# Altium schematic symbol library dungvh03-CERN_Logic.SchLib: 486 symbols (part 28 of 54)
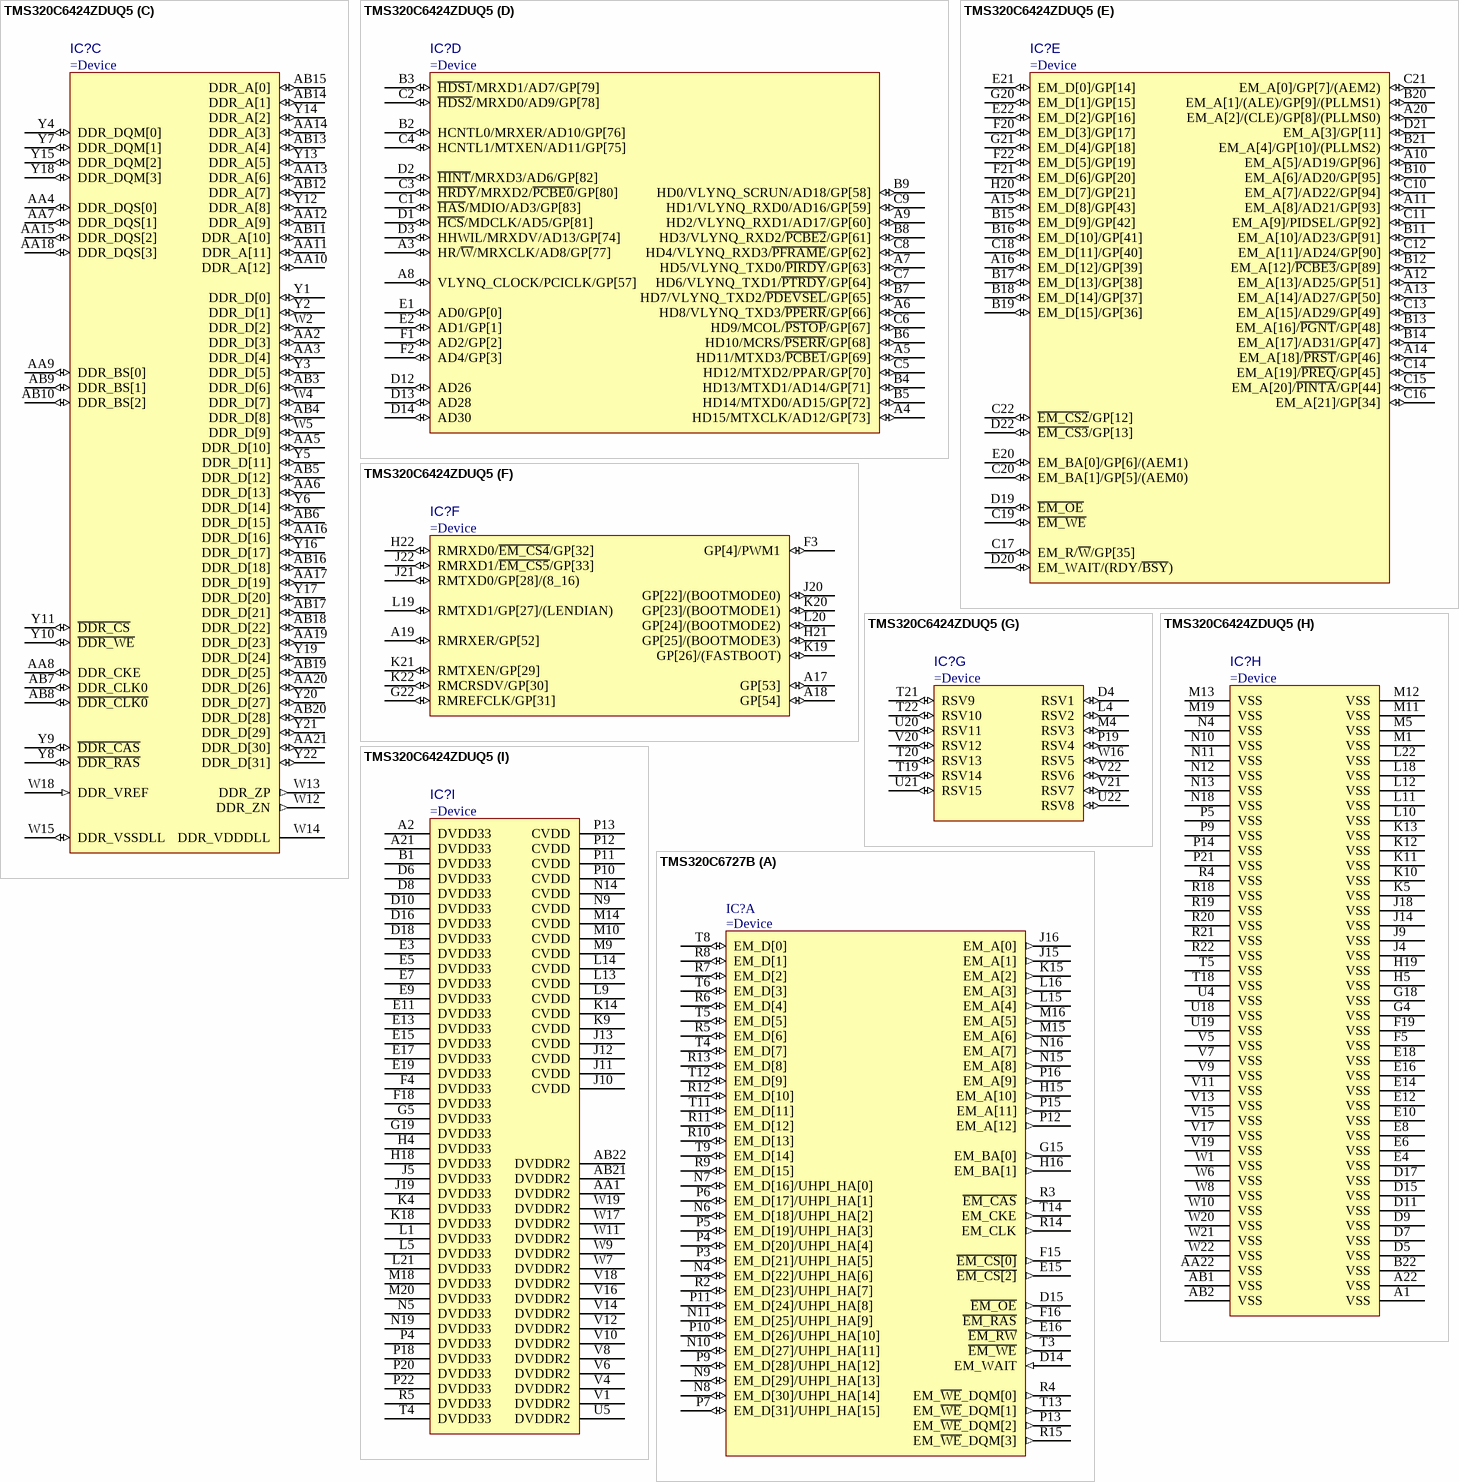
[diagram p288: symbols TMS320C6424ZDUQ5 to TMS320C6727B]

## TMS320C6424ZDUQ5
designator IC?
Fixed-Point Digital Signal Processor (DSP)
part A pins: M21 MXVSS (io), M22 MXO (out), N2 SCL (io), N20 PLLPWR18 (power), N21 MXVDD (power), N22 MXI/CLKIN (in), P2 SDA (io), R2 ~{POR} (in), R3 ~{RESET} (in), T1 EMU0 (io), T2 EMU1 (io), T3 ~{RESETOUT} (out), U1 TCK (in), U2 TDO (out), U3 TDI (in), V2 ~{TRST} (in), V3 TMS (in), W3 PCIEN (in)
part B pins: G1 ACLKX0/CLKX1/GP[106] (io), G2 AFSX0/DX1/GP[107] (io), G3 AMUTEIN0/FSX1/GP[109] (io), H1 AHCLKX0/CLKR1/GP[108] (io), H2 AXR0[0]/FSR1/GP[105] (io), H3 AMUTE0/DR1/GP[110] (io), J1 ACLKR0/CLKX0/GP[99] (io), J2 AXR0[2]/FSX0/GP[103] (io), J3 AXR0[3]/FSR0/GP[102] (io), K1 AHCLKR0/CLKR0/GP[101] (io), K2 AXR0[1]/DX0/GP[104] (io), K3 AFSR0/DR0/GP[100] (io), L2 CLKS1/TINP0L/GP[98] (io), L3 CLKS0/TOUT0L/GP[97] (io), M2 URXD0/GP[85] (io), M3 URTS0/PWM0/GP[88] (io), N1 UTXD0/GP[86] (io), N3 TOUT1L/UTXD1/GP[55] (io), P1 UCTS0/GP[87] (io), P3 TINP1L/URXD1/GP[56] (io), R1 CLKOUT0/PWM2/GP[84] (io)
part C pins: AA2 DDR_D[3] (io), AA3 DDR_D[4] (io), AA4 DDR_DQS[0] (io), AA5 DDR_D[10] (io), AA6 DDR_D[13] (io), AA7 DDR_DQS[1] (io), AA8 DDR_CKE (io), AA9 DDR_BS[0] (io), AA10 DDR_A[12] (io), AA11 DDR_A[11] (io), AA12 DDR_A[9] (io), AA13 DDR_A[6] (io), AA14 DDR_A[3] (io), AA15 DDR_DQS[2] (io), AA16 DDR_D[16] (io), AA17 DDR_D[19] (io), AA18 DDR_DQS[3] (io), AA19 DDR_D[23] (io), AA20 DDR_D[26] (io), AA21 DDR_D[30] (io), AB3 DDR_D[6] (io), AB4 DDR_D[8] (io), AB5 DDR_D[12] (io), AB6 DDR_D[15] (io), AB7 DDR_CLK0 (io), AB8 ~{DDR_CLK0} (io), AB9 DDR_BS[1] (io), AB10 DDR_BS[2] (io), AB11 DDR_A[10] (io), AB12 DDR_A[7] (io), AB13 DDR_A[4] (io), AB14 DDR_A[1] (io), AB15 DDR_A[0] (io), AB16 DDR_D[18] (io), AB17 DDR_D[21] (io), AB18 DDR_D[22] (io), AB19 DDR_D[25] (io), AB20 DDR_D[28] (io), W2 DDR_D[2] (io), W4 DDR_D[7] (io), W5 DDR_D[9] (io), W12 DDR_ZN (out), W13 DDR_ZP (out), W14 DDR_VDDDLL (power), W15 DDR_VSSDLL (io), W18 DDR_VREF (in), Y1 DDR_D[0] (io), Y2 DDR_D[1] (io), Y3 DDR_D[5] (io), Y4 DDR_DQM[0] (io), Y5 DDR_D[11] (io), Y6 DDR_D[14] (io), Y7 DDR_DQM[1] (io), Y8 ~{DDR_RAS} (io), Y9 ~{DDR_CAS} (io), Y10 ~{DDR_WE} (io), Y11 ~{DDR_CS} (io), Y12 DDR_A[8] (io), Y13 DDR_A[5] (io), Y14 DDR_A[2] (io), Y15 DDR_DQM[2] (io), Y16 DDR_D[17] (io), Y17 DDR_D[20] (io), Y18 DDR_DQM[3] (io), Y19 DDR_D[24] (io), Y20 DDR_D[27] (io), Y21 DDR_D[29] (io), Y22 DDR_D[31] (io)
part D pins: A3 HR/~{W}/MRXCLK/AD8/GP[77] (io), A4 HD15/MTXCLK/AD12/GP[73] (io), A5 HD11/MTXD3/~{PCBE1}/GP[69] (io), A6 HD8/VLYNQ_TXD3/~{PPERR}/GP[66] (io), A7 HD5/VLYNQ_TXD0/~{PIRDY}/GP[63] (io), A8 VLYNQ_CLOCK/PCICLK/GP[57] (io), A9 HD2/VLYNQ_RXD1/AD17/GP[60] (io), B2 HCNTL0/MRXER/AD10/GP[76] (io), B3 ~{HDS1}/MRXD1/AD7/GP[79] (io), B4 HD13/MTXD1/AD14/GP[71] (io), B5 HD14/MTXD0/AD15/GP[72] (io), B6 HD10/MCRS/~{PSERR}/GP[68] (io), B7 HD7/VLYNQ_TXD2/~{PDEVSEL}/GP[65] (io), B8 HD3/VLYNQ_RXD2/~{PCBE2}/GP[61] (io), B9 HD0/VLYNQ_SCRUN/AD18/GP[58] (io), C1 ~{HAS}/MDIO/AD3/GP[83] (io), C2 ~{HDS2}/MRXD0/AD9/GP[78] (io), C3 ~{HRDY}/MRXD2/~{PCBE0}/GP[80] (io), C4 HCNTL1/MTXEN/AD11/GP[75] (io), C5 HD12/MTXD2/PPAR/GP[70] (io), C6 HD9/MCOL/~{PSTOP}/GP[67] (io), C7 HD6/VLYNQ_TXD1/~{PTRDY}/GP[64] (io), C8 HD4/VLYNQ_RXD3/~{PFRAME}/GP[62] (io), C9 HD1/VLYNQ_RXD0/AD16/GP[59] (io), D1 ~{HCS}/MDCLK/AD5/GP[81] (io), D2 ~{HINT}/MRXD3/AD6/GP[82] (io), D3 HHWIL/MRXDV/AD13/GP[74] (io), D12 AD26 (io), D13 AD28 (io), D14 AD30 (io), E1 AD0/GP[0] (io), E2 AD1/GP[1] (io), F1 AD2/GP[2] (io), F2 AD4/GP[3] (io)
part E pins: A10 EM_A[5]/AD19/GP[96] (io), A11 EM_A[8]/AD21/GP[93] (io), A12 EM_A[13]/AD25/GP[51] (io), A13 EM_A[14]/AD27/GP[50] (io), A14 EM_A[18]/~{PRST}/GP[46] (io), A15 EM_D[8]/GP[43] (io), A16 EM_D[12]/GP[39] (io), A20 EM_A[2]/(CLE)/GP[8]/(PLLMS0) (io), B10 EM_A[6]/AD20/GP[95] (io), B11 EM_A[10]/AD23/GP[91] (io), B12 EM_A[12]/~{PCBE3}/GP[89] (io), B13 EM_A[16]/~{PGNT}/GP[48] (io), B14 EM_A[17]/AD31/GP[47] (io), B15 EM_D[9]/GP[42] (io), B16 EM_D[10]/GP[41] (io), B17 EM_D[13]/GP[38] (io), B18 EM_D[14]/GP[37] (io), B19 EM_D[15]/GP[36] (io), B20 EM_A[1]/(ALE)/GP[9]/(PLLMS1) (io), B21 EM_A[4]/GP[10]/(PLLMS2) (io), C10 EM_A[7]/AD22/GP[94] (io), C11 EM_A[9]/PIDSEL/GP[92] (io), C12 EM_A[11]/AD24/GP[90] (io), C13 EM_A[15]/AD29/GP[49] (io), C14 EM_A[19]/~{PREQ}/GP[45] (io), C15 EM_A[20]/~{PINTA}/GP[44] (io), C16 EM_A[21]/GP[34] (io), C17 EM_R/~{W}/GP[35] (io), C18 EM_D[11]/GP[40] (io), C19 ~{EM_WE} (io), C20 EM_BA[1]/GP[5]/(AEM0) (io), C21 EM_A[0]/GP[7]/(AEM2) (io), C22 ~{EM_CS2}/GP[12] (io), D19 ~{EM_OE} (io), D20 EM_WAIT/(RDY/~{BSY}) (io), D21 EM_A[3]/GP[11] (io), D22 ~{EM_CS3}/GP[13] (io), E20 EM_BA[0]/GP[6]/(AEM1) (io), E21 EM_D[0]/GP[14] (io), E22 EM_D[2]/GP[16] (io), F20 EM_D[3]/GP[17] (io), F21 EM_D[6]/GP[20] (io), F22 EM_D[5]/GP[19] (io), G20 EM_D[1]/GP[15] (io), G21 EM_D[4]/GP[18] (io), H20 EM_D[7]/GP[21] (io)
part F pins: A17 GP[53] (io), A18 GP[54] (io), A19 RMRXER/GP[52] (io), F3 GP[4]/PWM1 (io), G22 RMREFCLK/GP[31] (io), H21 GP[25]/(BOOTMODE3) (io), H22 RMRXD0/~{EM_CS4}/GP[32] (io), J20 GP[22]/(BOOTMODE0) (io), J21 RMTXD0/GP[28]/(8_16) (io), J22 RMRXD1/~{EM_CS5}/GP[33] (io), K19 GP[26]/(FASTBOOT) (io), K20 GP[23]/(BOOTMODE1) (io), K21 RMTXEN/GP[29] (io), K22 RMCRSDV/GP[30] (io), L19 RMTXD1/GP[27]/(LENDIAN) (io), L20 GP[24]/(BOOTMODE2) (io)
part G pins: D4 RSV1 (io), L4 RSV2 (io), M4 RSV3 (io), P19 RSV4 (io), T19 RSV14 (io), T20 RSV13 (io), T21 RSV9 (io), T22 RSV10 (io), U20 RSV11 (io), U21 RSV15 (io), U22 RSV8 (io), V20 RSV12 (io), V21 RSV7 (io), V22 RSV6 (io), W16 RSV5 (io)
part H pins: A1 VSS (power), A22 VSS (power), AA22 VSS (power), AB1 VSS (power), AB2 VSS (power), B22 VSS (power), D5 VSS (power), D7 VSS (power), D9 VSS (power), D11 VSS (power), D15 VSS (power), D17 VSS (power), E4 VSS (power), E6 VSS (power), E8 VSS (power), E10 VSS (power), E12 VSS (power), E14 VSS (power), E16 VSS (power), E18 VSS (power), F5 VSS (power), F19 VSS (power), G4 VSS (power), G18 VSS (power), H5 VSS (power), H19 VSS (power), J4 VSS (power), J9 VSS (power), J14 VSS (power), J18 VSS (power), K5 VSS (power), K10 VSS (power), K11 VSS (power), K12 VSS (power), K13 VSS (power), L10 VSS (power), L11 VSS (power), L12 VSS (power), L18 VSS (power), L22 VSS (power), M1 VSS (power), M5 VSS (power), M11 VSS (power), M12 VSS (power), M13 VSS (power), M19 VSS (power), N4 VSS (power), N10 VSS (power), N11 VSS (power), N12 VSS (power), N13 VSS (power), N18 VSS (power), P5 VSS (power), P9 VSS (power), P14 VSS (power), P21 VSS (power), R4 VSS (power), R18 VSS (power), R19 VSS (power), R20 VSS (power), R21 VSS (power), R22 VSS (power), T5 VSS (power), T18 VSS (power), U4 VSS (power), U18 VSS (power), U19 VSS (power), V5 VSS (power), V7 VSS (power), V9 VSS (power), V11 VSS (power), V13 VSS (power), V15 VSS (power), V17 VSS (power), V19 VSS (power), W1 VSS (power), W6 VSS (power), W8 VSS (power), W10 VSS (power), W20 VSS (power), W21 VSS (power), W22 VSS (power)
part I pins: A2 DVDD33 (power), A21 DVDD33 (power), AA1 DVDDR2 (power), AB21 DVDDR2 (power), AB22 DVDDR2 (power), B1 DVDD33 (power), D6 DVDD33 (power), D8 DVDD33 (power), D10 DVDD33 (power), D16 DVDD33 (power), D18 DVDD33 (power), E3 DVDD33 (power), E5 DVDD33 (power), E7 DVDD33 (power), E9 DVDD33 (power), E11 DVDD33 (power), E13 DVDD33 (power), E15 DVDD33 (power), E17 DVDD33 (power), E19 DVDD33 (power), F4 DVDD33 (power), F18 DVDD33 (power), G5 DVDD33 (power), G19 DVDD33 (power), H4 DVDD33 (power), H18 DVDD33 (power), J5 DVDD33 (power), J10 CVDD (power), J11 CVDD (power), J12 CVDD (power), J13 CVDD (power), J19 DVDD33 (power), K4 DVDD33 (power), K9 CVDD (power), K14 CVDD (power), K18 DVDD33 (power), L1 DVDD33 (power), L5 DVDD33 (power), L9 CVDD (power), L13 CVDD (power), L14 CVDD (power), L21 DVDD33 (power), M9 CVDD (power), M10 CVDD (power), M14 CVDD (power), M18 DVDD33 (power), M20 DVDD33 (power), N5 DVDD33 (power), N9 CVDD (power), N14 CVDD (power), N19 DVDD33 (power), P4 DVDD33 (power), P10 CVDD (power), P11 CVDD (power), P12 CVDD (power), P13 CVDD (power), P18 DVDD33 (power), P20 DVDD33 (power), P22 DVDD33 (power), R5 DVDD33 (power), T4 DVDD33 (power), U5 DVDDR2 (power), V1 DVDDR2 (power), V4 DVDDR2 (power), V6 DVDDR2 (power), V8 DVDDR2 (power), V10 DVDDR2 (power), V12 DVDDR2 (power), V14 DVDDR2 (power), V16 DVDDR2 (power), V18 DVDDR2 (power), W7 DVDDR2 (power), W9 DVDDR2 (power), W11 DVDDR2 (power), W17 DVDDR2 (power), W19 DVDDR2 (power)

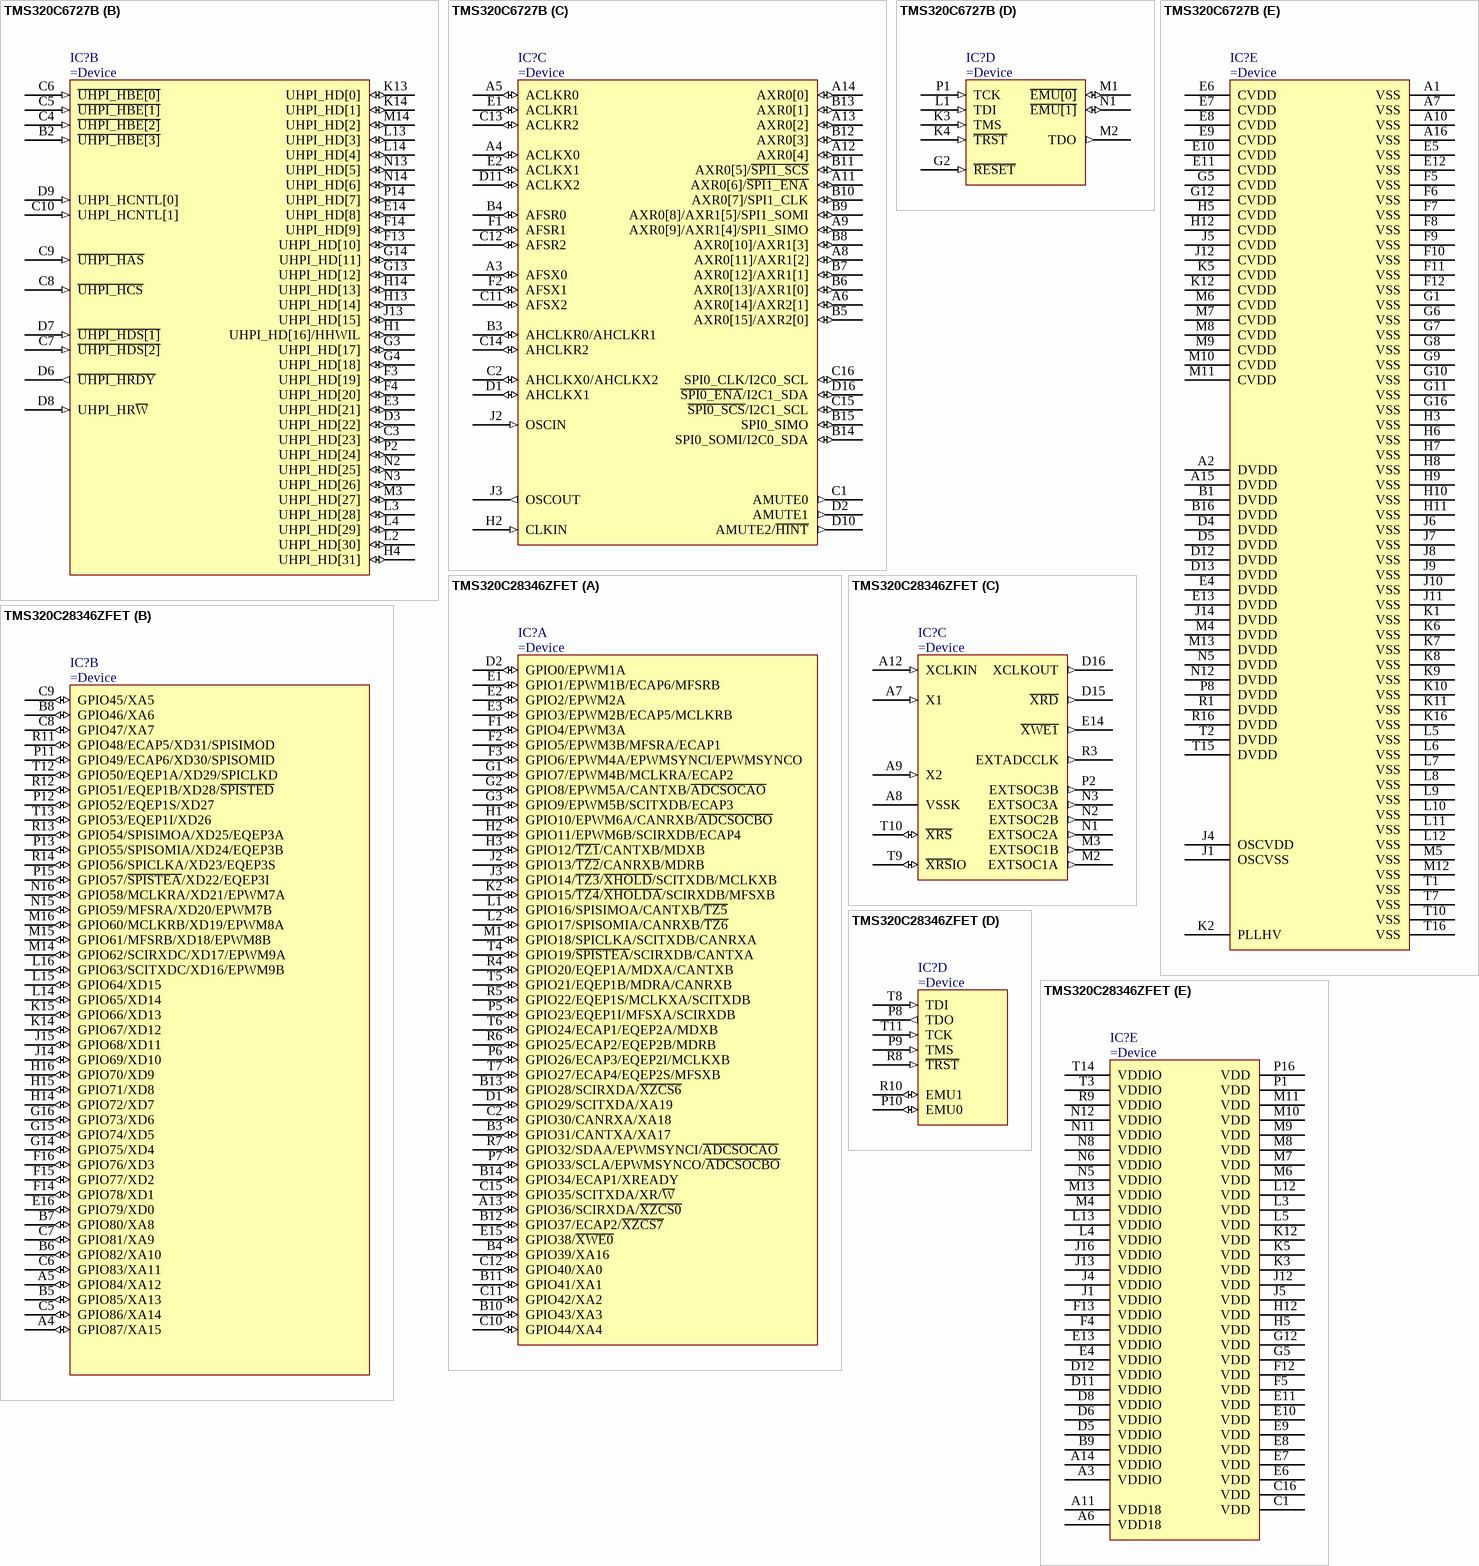
[diagram p125: symbols TMS320C6727B to TMS320C28346ZFET]

## TMS320C6727B
designator IC?
Floating-Point Digital Signal Processor (DSP)
part A pins: D14 EM_WAIT (in), D15 ~{EM_OE} (out), E15 ~{EM_CS[2]} (out), E16 ~{EM_RW} (out), F15 ~{EM_CS[0]} (out), F16 ~{EM_RAS} (out), G15 EM_BA[0] (out), H15 EM_A[10] (out), H16 EM_BA[1] (out), J15 EM_A[1] (out), J16 EM_A[0] (out), K15 EM_A[2] (out), L15 EM_A[4] (out), L16 EM_A[3] (out), M15 EM_A[6] (out), M16 EM_A[5] (out), N4 EM_D[22]/UHPI_HA[6] (io), N6 EM_D[18]/UHPI_HA[2] (io), N7 EM_D[16]/UHPI_HA[0] (io), N8 EM_D[30]/UHPI_HA[14] (io), N9 EM_D[29]/UHPI_HA[13] (io), N10 EM_D[27]/UHPI_HA[11] (io), N11 EM_D[25]/UHPI_HA[9] (io), N15 EM_A[8] (out), N16 EM_A[7] (out), P3 EM_D[21]/UHPI_HA[5] (io), P4 EM_D[20]/UHPI_HA[4] (io), P5 EM_D[19]/UHPI_HA[3] (io), P6 EM_D[17]/UHPI_HA[1] (io), P7 EM_D[31]/UHPI_HA[15] (io), P9 EM_D[28]/UHPI_HA[12] (io), P10 EM_D[26]/UHPI_HA[10] (io), P11 EM_D[24]/UHPI_HA[8] (io), P12 EM_A[12] (out), P13 EM_~{WE}_DQM[2] (out), P15 EM_A[11] (out), P16 EM_A[9] (out), R2 EM_D[23]/UHPI_HA[7] (io), R3 ~{EM_CAS} (out), R4 EM_~{WE}_DQM[0] (out), R5 EM_D[6] (io), R6 EM_D[4] (io), R7 EM_D[2] (io), R8 EM_D[1] (io), R9 EM_D[15] (io), R10 EM_D[13] (io), R11 EM_D[12] (io), R12 EM_D[10] (io), R13 EM_D[8] (io), R14 EM_CLK (out), R15 EM_~{WE}_DQM[3] (out), T3 ~{EM_WE} (out), T4 EM_D[7] (io), T5 EM_D[5] (io), T6 EM_D[3] (io), T8 EM_D[0] (io), T9 EM_D[14] (io), T11 EM_D[11] (io), T12 EM_D[9] (io), T13 EM_~{WE}_DQM[1] (out), T14 EM_CKE (out)
part B pins: B2 ~{UHPI_HBE[3]} (in), C3 UHPI_HD[23] (io), C4 ~{UHPI_HBE[2]} (in), C5 ~{UHPI_HBE[1]} (in), C6 ~{UHPI_HBE[0]} (in), C7 ~{UHPI_HDS[2]} (in), C8 ~{UHPI_HCS} (in), C9 ~{UHPI_HAS} (in), C10 UHPI_HCNTL[1] (in), D3 UHPI_HD[22] (io), D6 ~{UHPI_HRDY} (out), D7 ~{UHPI_HDS[1]} (in), D8 UHPI_HR~{W} (in), D9 UHPI_HCNTL[0] (in), E3 UHPI_HD[21] (io), E14 UHPI_HD[8] (io), F3 UHPI_HD[19] (io), F4 UHPI_HD[20] (io), F13 UHPI_HD[10] (io), F14 UHPI_HD[9] (io), G3 UHPI_HD[17] (io), G4 UHPI_HD[18] (io), G13 UHPI_HD[12] (io), G14 UHPI_HD[11] (io), H1 UHPI_HD[16]/HHWIL (io), H4 UHPI_HD[31] (io), H13 UHPI_HD[14] (io), H14 UHPI_HD[13] (io), J13 UHPI_HD[15] (io), K13 UHPI_HD[0] (io), K14 UHPI_HD[1] (io), L2 UHPI_HD[30] (io), L3 UHPI_HD[28] (io), L4 UHPI_HD[29] (io), L13 UHPI_HD[3] (io), L14 UHPI_HD[4] (io), M3 UHPI_HD[27] (io), M14 UHPI_HD[2] (io), N2 UHPI_HD[25] (io), N3 UHPI_HD[26] (io), N13 UHPI_HD[5] (io), N14 UHPI_HD[6] (io), P2 UHPI_HD[24] (io), P14 UHPI_HD[7] (io)
part C pins: A3 AFSX0 (io), A4 ACLKX0 (io), A5 ACLKR0 (io), A6 AXR0[14]/AXR2[1] (io), A8 AXR0[11]/AXR1[2] (io), A9 AXR0[9]/AXR1[4]/SPI1_SIMO (io), A11 AXR0[6]/~{SPI1_ENA} (io), A12 AXR0[4] (io), A13 AXR0[2] (io), A14 AXR0[0] (io), B3 AHCLKR0/AHCLKR1 (io), B4 AFSR0 (io), B5 AXR0[15]/AXR2[0] (io), B6 AXR0[13]/AXR1[0] (io), B7 AXR0[12]/AXR1[1] (io), B8 AXR0[10]/AXR1[3] (io), B9 AXR0[8]/AXR1[5]/SPI1_SOMI (io), B10 AXR0[7]/SPI1_CLK (io), B11 AXR0[5]/~{SPI1_SCS} (io), B12 AXR0[3] (io), B13 AXR0[1] (io), B14 SPI0_SOMI/I2C0_SDA (io), B15 SPI0_SIMO (io), C1 AMUTE0 (out), C2 AHCLKX0/AHCLKX2 (io), C11 AFSX2 (io), C12 AFSR2 (io), C13 ACLKR2 (io), C14 AHCLKR2 (io), C15 ~{SPI0_SCS}/I2C1_SCL (io), C16 SPI0_CLK/I2C0_SCL (io), D1 AHCLKX1 (io), D2 AMUTE1 (out), D10 AMUTE2/~{HINT} (out), D11 ACLKX2 (io), D16 ~{SPI0_ENA}/I2C1_SDA (io), E1 ACLKR1 (io), E2 ACLKX1 (io), F1 AFSR1 (io), F2 AFSX1 (io), H2 CLKIN (in), J2 OSCIN (in), J3 OSCOUT (out)
part D pins: G2 ~{RESET} (in), K3 TMS (in), K4 ~{TRST} (in), L1 TDI (in), M1 ~{EMU[0]} (io), M2 TDO (out), N1 ~{EMU[1]} (io), P1 TCK (in)
part E pins: A1 VSS (power), A2 DVDD (power), A7 VSS (power), A10 VSS (power), A15 DVDD (power), A16 VSS (power), B1 DVDD (power), B16 DVDD (power), D4 DVDD (power), D5 DVDD (power), D12 DVDD (power), D13 DVDD (power), E4 DVDD (power), E5 VSS (power), E6 CVDD (power), E7 CVDD (power), E8 CVDD (power), E9 CVDD (power), E10 CVDD (power), E11 CVDD (power), E12 VSS (power), E13 DVDD (power), F5 VSS (power), F6 VSS (power), F7 VSS (power), F8 VSS (power), F9 VSS (power), F10 VSS (power), F11 VSS (power), F12 VSS (power), G1 VSS (power), G5 CVDD (power), G6 VSS (power), G7 VSS (power), G8 VSS (power), G9 VSS (power), G10 VSS (power), G11 VSS (power), G12 CVDD (power), G16 VSS (power), H3 VSS (power), H5 CVDD (power), H6 VSS (power), H7 VSS (power), H8 VSS (power), H9 VSS (power), H10 VSS (power), H11 VSS (power), H12 CVDD (power), J1 OSCVSS (power), J4 OSCVDD (power), J5 CVDD (power), J6 VSS (power), J7 VSS (power), J8 VSS (power), J9 VSS (power), J10 VSS (power), J11 VSS (power), J12 CVDD (power), J14 DVDD (power), K1 VSS (power), K2 PLLHV (power), K5 CVDD (power), K6 VSS (power), K7 VSS (power), K8 VSS (power), K9 VSS (power), K10 VSS (power), K11 VSS (power), K12 CVDD (power), K16 VSS (power), L5 VSS (power), L6 VSS (power), L7 VSS (power), L8 VSS (power), L9 VSS (power), L10 VSS (power), L11 VSS (power), L12 VSS (power), M4 DVDD (power), M5 VSS (power), M6 CVDD (power), M7 CVDD (power), M8 CVDD (power), M9 CVDD (power), M10 CVDD (power), M11 CVDD (power), M12 VSS (power), M13 DVDD (power), N5 DVDD (power), N12 DVDD (power), P8 DVDD (power), R1 DVDD (power), R16 DVDD (power), T1 VSS (power), T2 DVDD (power), T7 VSS (power), T10 VSS (power), T15 DVDD (power), T16 VSS (power)

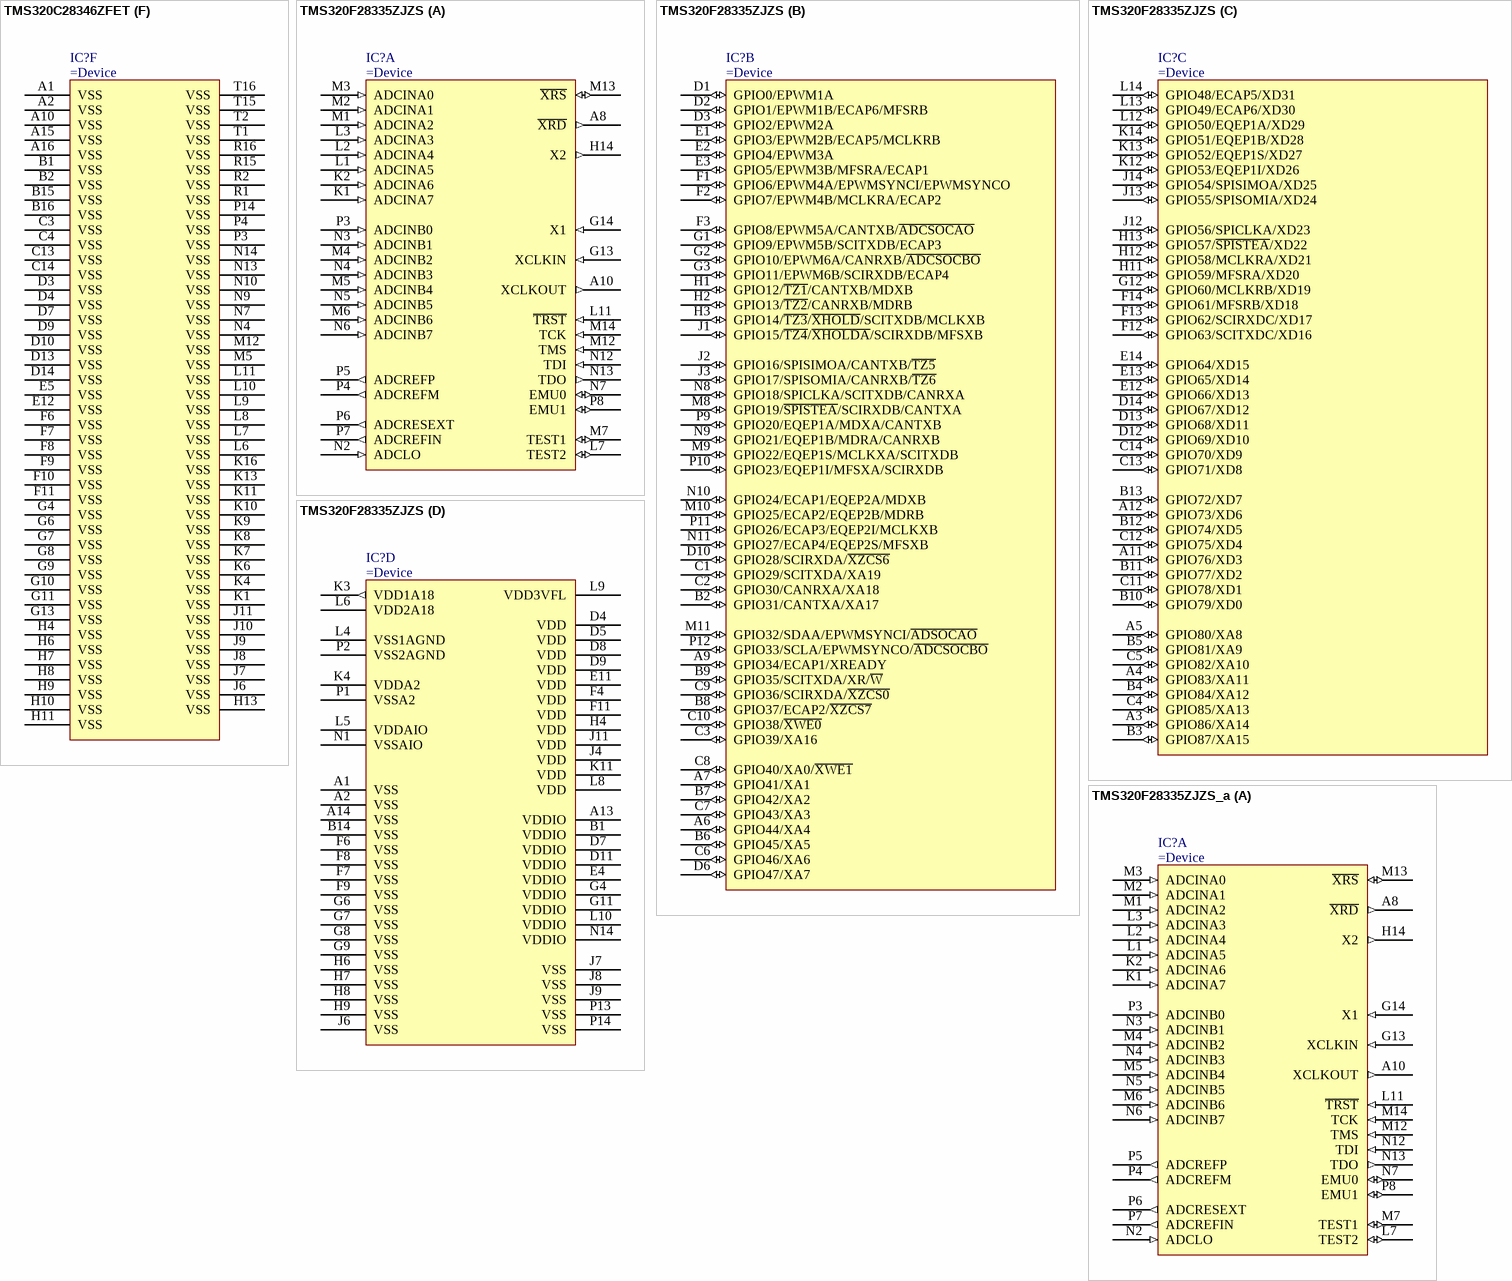
[diagram p126: symbols TMS320C28346ZFET to TMS320F28335ZJZS_a]

## TMS320C28346ZFET
designator IC?
Delfino Microcontroller
part A pins: A13 GPIO36/SCIRXDA/~{XZCS0} (io), B3 GPIO31/CANTXA/XA17 (io), B4 GPIO39/XA16 (io), B10 GPIO43/XA3 (io), B11 GPIO41/XA1 (io), B12 GPIO37/ECAP2/~{XZCS7} (io), B13 GPIO28/SCIRXDA/~{XZCS6} (io), B14 GPIO34/ECAP1/XREADY (io), C2 GPIO30/CANRXA/XA18 (io), C10 GPIO44/XA4 (io), C11 GPIO42/XA2 (io), C12 GPIO40/XA0 (io), C15 GPIO35/SCITXDA/XR/~{W} (io), D1 GPIO29/SCITXDA/XA19 (io), D2 GPIO0/EPWM1A (io), E1 GPIO1/EPWM1B/ECAP6/MFSRB (io), E2 GPIO2/EPWM2A (io), E3 GPIO3/EPWM2B/ECAP5/MCLKRB (io), E15 GPIO38/~{XWE0} (io), F1 GPIO4/EPWM3A (io), F2 GPIO5/EPWM3B/MFSRA/ECAP1 (io), F3 GPIO6/EPWM4A/EPWMSYNCI/EPWMSYNCO (io), G1 GPIO7/EPWM4B/MCLKRA/ECAP2 (io), G2 GPIO8/EPWM5A/CANTXB/~{ADCSOCAO} (io), G3 GPIO9/EPWM5B/SCITXDB/ECAP3 (io), H1 GPIO10/EPWM6A/CANRXB/~{ADCSOCBO} (io), H2 GPIO11/EPWM6B/SCIRXDB/ECAP4 (io), H3 GPIO12/~{TZ1}/CANTXB/MDXB (io), J2 GPIO13/~{TZ2}/CANRXB/MDRB (io), J3 GPIO14/~{TZ3}/~{XHOLD}/SCITXDB/MCLKXB (io), K2 GPIO15/~{TZ4}/~{XHOLDA}/SCIRXDB/MFSXB (io), L1 GPIO16/SPISIMOA/CANTXB/~{TZ5} (io), L2 GPIO17/SPISOMIA/CANRXB/~{TZ6} (io), M1 GPIO18/SPICLKA/SCITXDB/CANRXA (io), P5 GPIO23/EQEP1I/MFSXA/SCIRXDB (io), P6 GPIO26/ECAP3/EQEP2I/MCLKXB (io), P7 GPIO33/SCLA/EPWMSYNCO/~{ADCSOCBO} (io), R4 GPIO20/EQEP1A/MDXA/CANTXB (io), R5 GPIO22/EQEP1S/MCLKXA/SCITXDB (io), R6 GPIO25/ECAP2/EQEP2B/MDRB (io), R7 GPIO32/SDAA/EPWMSYNCI/~{ADCSOCAO} (io), T4 GPIO19/~{SPISTEA}/SCIRXDB/CANTXA (io), T5 GPIO21/EQEP1B/MDRA/CANRXB (io), T6 GPIO24/ECAP1/EQEP2A/MDXB (io), T7 GPIO27/ECAP4/EQEP2S/MFSXB (io)
part B pins: A4 GPIO87/XA15 (io), A5 GPIO84/XA12 (io), B5 GPIO85/XA13 (io), B6 GPIO82/XA10 (io), B7 GPIO80/XA8 (io), B8 GPIO46/XA6 (io), C5 GPIO86/XA14 (io), C6 GPIO83/XA11 (io), C7 GPIO81/XA9 (io), C8 GPIO47/XA7 (io), C9 GPIO45/XA5 (io), E16 GPIO79/XD0 (io), F14 GPIO78/XD1 (io), F15 GPIO77/XD2 (io), F16 GPIO76/XD3 (io), G14 GPIO75/XD4 (io), G15 GPIO74/XD5 (io), G16 GPIO73/XD6 (io), H14 GPIO72/XD7 (io), H15 GPIO71/XD8 (io), H16 GPIO70/XD9 (io), J14 GPIO69/XD10 (io), J15 GPIO68/XD11 (io), K14 GPIO67/XD12 (io), K15 GPIO66/XD13 (io), L14 GPIO65/XD14 (io), L15 GPIO64/XD15 (io), L16 GPIO63/SCITXDC/XD16/EPWM9B (io), M14 GPIO62/SCIRXDC/XD17/EPWM9A (io), M15 GPIO61/MFSRB/XD18/EPWM8B (io), M16 GPIO60/MCLKRB/XD19/EPWM8A (io), N15 GPIO59/MFSRA/XD20/EPWM7B (io), N16 GPIO58/MCLKRA/XD21/EPWM7A (io), P11 GPIO49/ECAP6/XD30/SPISOMID (io), P12 GPIO52/EQEP1S/XD27 (io), P13 GPIO55/SPISOMIA/XD24/EQEP3B (io), P15 GPIO57/~{SPISTEA}/XD22/EQEP3I (io), R11 GPIO48/ECAP5/XD31/SPISIMOD (io), R12 GPIO51/EQEP1B/XD28/~{SPISTED} (io), R13 GPIO54/SPISIMOA/XD25/EQEP3A (io), R14 GPIO56/SPICLKA/XD23/EQEP3S (io), T12 GPIO50/EQEP1A/XD29/SPICLKD (io), T13 GPIO53/EQEP1I/XD26 (io)
part C pins: A7 X1 (in), A8 VSSK (power), A9 X2 (in), A12 XCLKIN (in), D15 ~{XRD} (out), D16 XCLKOUT (out), E14 ~{XWE1} (out), M2 EXTSOC1A (out), M3 EXTSOC1B (out), N1 EXTSOC2A (out), N2 EXTSOC2B (out), N3 EXTSOC3A (out), P2 EXTSOC3B (out), R3 EXTADCCLK (out), T9 ~{XRS}IO (io), T10 ~{XRS} (io)
part D pins: P8 TDO (out), P9 TMS (in), P10 EMU0 (io), R8 ~{TRST} (in), R10 EMU1 (io), T8 TDI (in), T11 TCK (in)
part E pins: A3 VDDIO (power), A6 VDD18 (power), A11 VDD18 (power), A14 VDDIO (power), B9 VDDIO (power), C1 VDD (power), C16 VDD (power), D5 VDDIO (power), D6 VDDIO (power), D8 VDDIO (power), D11 VDDIO (power), D12 VDDIO (power), E4 VDDIO (power), E6 VDD (power), E7 VDD (power), E8 VDD (power), E9 VDD (power), E10 VDD (power), E11 VDD (power), E13 VDDIO (power), F4 VDDIO (power), F5 VDD (power), F12 VDD (power), F13 VDDIO (power), G5 VDD (power), G12 VDD (power), H5 VDD (power), H12 VDD (power), J1 VDDIO (power), J4 VDDIO (power), J5 VDD (power), J12 VDD (power), J13 VDDIO (power), J16 VDDIO (power), K3 VDD (power), K5 VDD (power), K12 VDD (power), L3 VDD (power), L4 VDDIO (power), L5 VDD (power), L12 VDD (power), L13 VDDIO (power), M4 VDDIO (power), M6 VDD (power), M7 VDD (power), M8 VDD (power), M9 VDD (power), M10 VDD (power), M11 VDD (power), M13 VDDIO (power), N5 VDDIO (power), N6 VDDIO (power), N8 VDDIO (power), N11 VDDIO (power), N12 VDDIO (power), P1 VDD (power), P16 VDD (power), R9 VDDIO (power), T3 VDDIO (power), T14 VDDIO (power)
part F pins: A1 VSS (power), A2 VSS (power), A10 VSS (power), A15 VSS (power), A16 VSS (power), B1 VSS (power), B2 VSS (power), B15 VSS (power), B16 VSS (power), C3 VSS (power), C4 VSS (power), C13 VSS (power), C14 VSS (power), D3 VSS (power), D4 VSS (power), D7 VSS (power), D9 VSS (power), D10 VSS (power), D13 VSS (power), D14 VSS (power), E5 VSS (power), E12 VSS (power), F6 VSS (power), F7 VSS (power), F8 VSS (power), F9 VSS (power), F10 VSS (power), F11 VSS (power), G4 VSS (power), G6 VSS (power), G7 VSS (power), G8 VSS (power), G9 VSS (power), G10 VSS (power), G11 VSS (power), G13 VSS (power), H4 VSS (power), H6 VSS (power), H7 VSS (power), H8 VSS (power), H9 VSS (power), H10 VSS (power), H11 VSS (power), H13 VSS (power), J6 VSS (power), J7 VSS (power), J8 VSS (power), J9 VSS (power), J10 VSS (power), J11 VSS (power), K1 VSS (power), K4 VSS (power), K6 VSS (power), K7 VSS (power), K8 VSS (power), K9 VSS (power), K10 VSS (power), K11 VSS (power), K13 VSS (power), K16 VSS (power), L6 VSS (power), L7 VSS (power), L8 VSS (power), L9 VSS (power), L10 VSS (power), L11 VSS (power), M5 VSS (power), M12 VSS (power), N4 VSS (power), N7 VSS (power), N9 VSS (power), N10 VSS (power), N13 VSS (power), N14 VSS (power), P3 VSS (power), P4 VSS (power), P14 VSS (power), R1 VSS (power), R2 VSS (power), R15 VSS (power), R16 VSS (power), T1 VSS (power), T2 VSS (power), T15 VSS (power), T16 VSS (power)

## TMS320F28335ZJZS
designator IC?
32-Bit 150MHz Digital Signal Processor (DSP)
part A pins: A8 ~{XRD} (out), A10 XCLKOUT (out), G13 XCLKIN (in), G14 X1 (in), H14 X2 (out), K1 ADCINA7 (in), K2 ADCINA6 (in), L1 ADCINA5 (in), L2 ADCINA4 (in), L3 ADCINA3 (in), L7 TEST2 (io), L11 ~{TRST} (in), M1 ADCINA2 (in), M2 ADCINA1 (in), M3 ADCINA0 (in), M4 ADCINB2 (in), M5 ADCINB4 (in), M6 ADCINB6 (in), M7 TEST1 (io), M12 TMS (in), M13 ~{XRS} (io), M14 TCK (in), N2 ADCLO (in), N3 ADCINB1 (in), N4 ADCINB3 (in), N5 ADCINB5 (in), N6 ADCINB7 (in), N7 EMU0 (io), N12 TDI (in), N13 TDO (out), P3 ADCINB0 (in), P4 ADCREFM (out), P5 ADCREFP (out), P6 ADCRESEXT (out), P7 ADCREFIN (out), P8 EMU1 (io)
part B pins: A6 GPIO44/XA4 (io), A7 GPIO41/XA1 (io), A9 GPIO34/ECAP1/XREADY (io), B2 GPIO31/CANTXA/XA17 (io), B6 GPIO45/XA5 (io), B7 GPIO42/XA2 (io), B8 GPIO37/ECAP2/~{XZCS7} (io), B9 GPIO35/SCITXDA/XR/~{W} (io), C1 GPIO29/SCITXDA/XA19 (io), C2 GPIO30/CANRXA/XA18 (io), C3 GPIO39/XA16 (io), C6 GPIO46/XA6 (io), C7 GPIO43/XA3 (io), C8 GPIO40/XA0/~{XWE1} (io), C9 GPIO36/SCIRXDA/~{XZCS0} (io), C10 GPIO38/~{XWE0} (io), D1 GPIO0/EPWM1A (io), D2 GPIO1/EPWM1B/ECAP6/MFSRB (io), D3 GPIO2/EPWM2A (io), D6 GPIO47/XA7 (io), D10 GPIO28/SCIRXDA/~{XZCS6} (io), E1 GPIO3/EPWM2B/ECAP5/MCLKRB (io), E2 GPIO4/EPWM3A (io), E3 GPIO5/EPWM3B/MFSRA/ECAP1 (io), F1 GPIO6/EPWM4A/EPWMSYNCI/EPWMSYNCO (io), F2 GPIO7/EPWM4B/MCLKRA/ECAP2 (io), F3 GPIO8/EPWM5A/CANTXB/~{ADCSOCAO} (io), G1 GPIO9/EPWM5B/SCITXDB/ECAP3 (io), G2 GPIO10/EPWM6A/CANRXB/~{ADCSOCBO} (io), G3 GPIO11/EPWM6B/SCIRXDB/ECAP4 (io), H1 GPIO12/~{TZ1}/CANTXB/MDXB (io), H2 GPIO13/~{TZ2}/CANRXB/MDRB (io), H3 GPIO14/~{TZ3}/~{XHOLD}/SCITXDB/MCLKXB (io), J1 GPIO15/~{TZ4}/~{XHOLDA}/SCIRXDB/MFSXB (io), J2 GPIO16/SPISIMOA/CANTXB/~{TZ5} (io), J3 GPIO17/SPISOMIA/CANRXB/~{TZ6} (io), M8 GPIO19/~{SPISTEA}/SCIRXDB/CANTXA (io), M9 GPIO22/EQEP1S/MCLKXA/SCITXDB (io), M10 GPIO25/ECAP2/EQEP2B/MDRB (io), M11 GPIO32/SDAA/EPWMSYNCI/~{ADSOCAO} (io), N8 GPIO18/SPICLKA/SCITXDB/CANRXA (io), N9 GPIO21/EQEP1B/MDRA/CANRXB (io), N10 GPIO24/ECAP1/EQEP2A/MDXB (io), N11 GPIO27/ECAP4/EQEP2S/MFSXB (io), P9 GPIO20/EQEP1A/MDXA/CANTXB (io), P10 GPIO23/EQEP1I/MFSXA/SCIRXDB (io), P11 GPIO26/ECAP3/EQEP2I/MCLKXB (io), P12 GPIO33/SCLA/EPWMSYNCO/~{ADCSOCBO} (io)
part C pins: A3 GPIO86/XA14 (io), A4 GPIO83/XA11 (io), A5 GPIO80/XA8 (io), A11 GPIO76/XD3 (io), A12 GPIO73/XD6 (io), B3 GPIO87/XA15 (io), B4 GPIO84/XA12 (io), B5 GPIO81/XA9 (io), B10 GPIO79/XD0 (io), B11 GPIO77/XD2 (io), B12 GPIO74/XD5 (io), B13 GPIO72/XD7 (io), C4 GPIO85/XA13 (io), C5 GPIO82/XA10 (io), C11 GPIO78/XD1 (io), C12 GPIO75/XD4 (io), C13 GPIO71/XD8 (io), C14 GPIO70/XD9 (io), D12 GPIO69/XD10 (io), D13 GPIO68/XD11 (io), D14 GPIO67/XD12 (io), E12 GPIO66/XD13 (io), E13 GPIO65/XD14 (io), E14 GPIO64/XD15 (io), F12 GPIO63/SCITXDC/XD16 (io), F13 GPIO62/SCIRXDC/XD17 (io), F14 GPIO61/MFSRB/XD18 (io), G12 GPIO60/MCLKRB/XD19 (io), H11 GPIO59/MFSRA/XD20 (io), H12 GPIO58/MCLKRA/XD21 (io), H13 GPIO57/~{SPISTEA}/XD22 (io), J12 GPIO56/SPICLKA/XD23 (io), J13 GPIO55/SPISOMIA/XD24 (io), J14 GPIO54/SPISIMOA/XD25 (io), K12 GPIO53/EQEP1I/XD26 (io), K13 GPIO52/EQEP1S/XD27 (io), K14 GPIO51/EQEP1B/XD28 (io), L12 GPIO50/EQEP1A/XD29 (io), L13 GPIO49/ECAP6/XD30 (io), L14 GPIO48/ECAP5/XD31 (io)
part D pins: A1 VSS (power), A2 VSS (power), A13 VDDIO (power), A14 VSS (power), B1 VDDIO (power), B14 VSS (power), D4 VDD (power), D5 VDD (power), D7 VDDIO (power), D8 VDD (power), D9 VDD (power), D11 VDDIO (power), E4 VDDIO (power), E11 VDD (power), F4 VDD (power), F6 VSS (power), F7 VSS (power), F8 VSS (power), F9 VSS (power), F11 VDD (power), G4 VDDIO (power), G6 VSS (power), G7 VSS (power), G8 VSS (power), G9 VSS (power), G11 VDDIO (power), H4 VDD (power), H6 VSS (power), H7 VSS (power), H8 VSS (power), H9 VSS (power), J4 VDD (power), J6 VSS (power), J7 VSS (power), J8 VSS (power), J9 VSS (power), J11 VDD (power), K3 VDD1A18 (out), K4 VDDA2 (power), K11 VDD (power), L4 VSS1AGND (power), L5 VDDAIO (power), L6 VDD2A18 (power), L8 VDD (power), L9 VDD3VFL (power), L10 VDDIO (power), N1 VSSAIO (power), N14 VDDIO (power), P1 VSSA2 (power), P2 VSS2AGND (power), P13 VSS (power), P14 VSS (power)

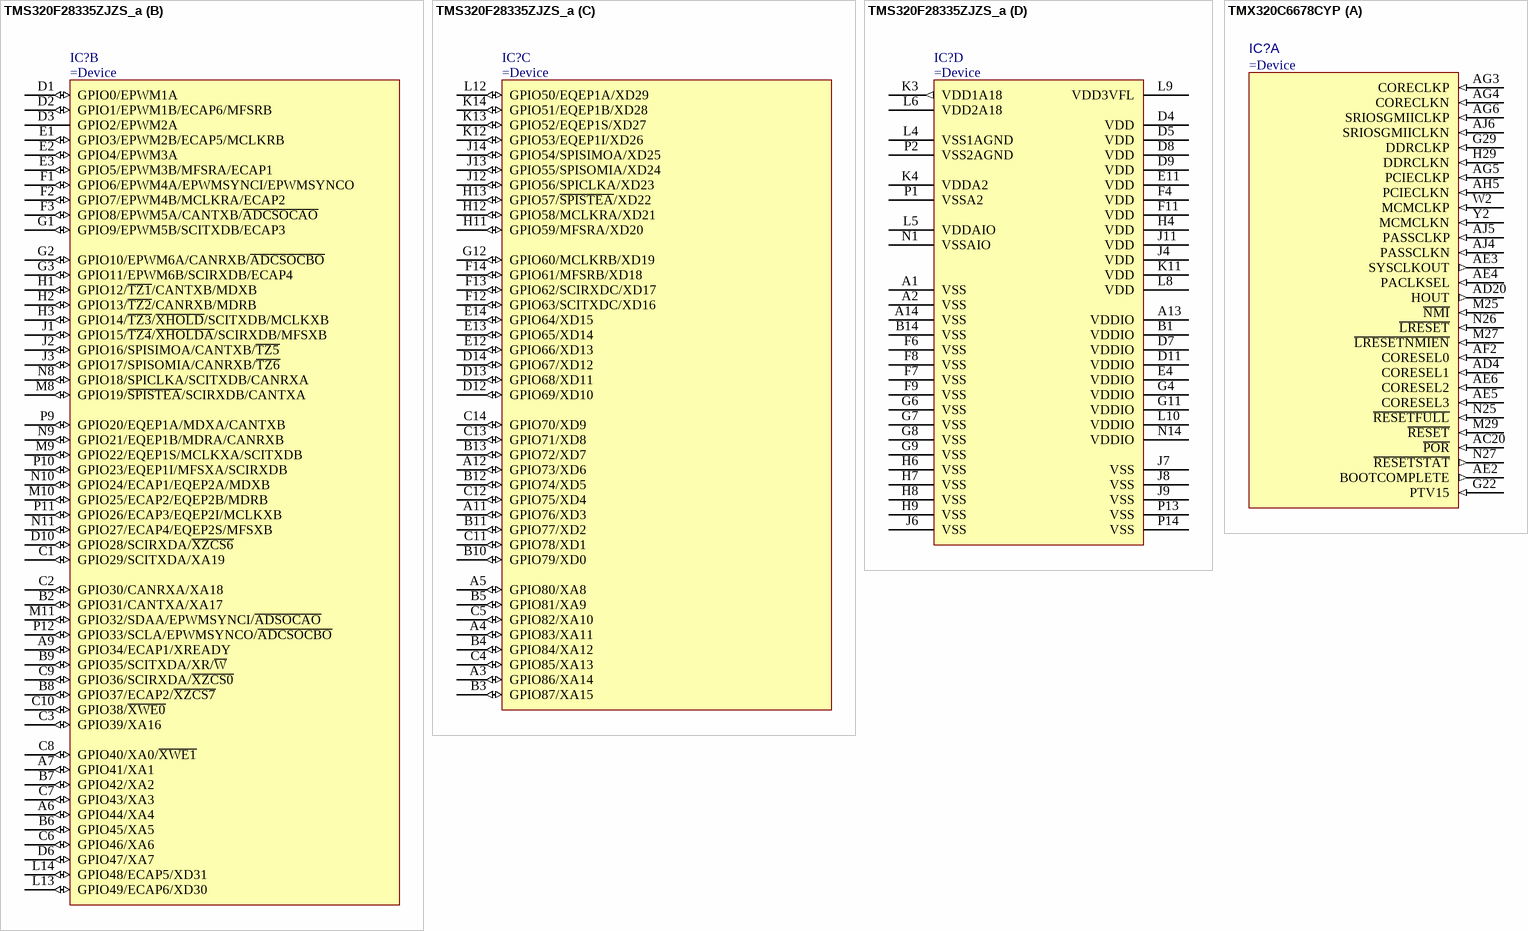
[diagram p127: symbols TMS320F28335ZJZS_a to TMX320C6678CYP]

## TMS320F28335ZJZS_a
designator IC?
32-Bit 150MHz Digital Signal Processor (DSP)
part A pins: A8 ~{XRD} (out), A10 XCLKOUT (out), G13 XCLKIN (in), G14 X1 (in), H14 X2 (out), K1 ADCINA7 (in), K2 ADCINA6 (in), L1 ADCINA5 (in), L2 ADCINA4 (in), L3 ADCINA3 (in), L7 TEST2 (io), L11 ~{TRST} (in), M1 ADCINA2 (in), M2 ADCINA1 (in), M3 ADCINA0 (in), M4 ADCINB2 (in), M5 ADCINB4 (in), M6 ADCINB6 (in), M7 TEST1 (io), M12 TMS (in), M13 ~{XRS} (io), M14 TCK (in), N2 ADCLO (in), N3 ADCINB1 (in), N4 ADCINB3 (in), N5 ADCINB5 (in), N6 ADCINB7 (in), N7 EMU0 (io), N12 TDI (in), N13 TDO (out), P3 ADCINB0 (in), P4 ADCREFM (out), P5 ADCREFP (out), P6 ADCRESEXT (out), P7 ADCREFIN (out), P8 EMU1 (io)
part B pins: A6 GPIO44/XA4 (io), A7 GPIO41/XA1 (io), A9 GPIO34/ECAP1/XREADY (io), B2 GPIO31/CANTXA/XA17 (io), B6 GPIO45/XA5 (io), B7 GPIO42/XA2 (io), B8 GPIO37/ECAP2/~{XZCS7} (io), B9 GPIO35/SCITXDA/XR/~{W} (io), C1 GPIO29/SCITXDA/XA19 (io), C2 GPIO30/CANRXA/XA18 (io), C3 GPIO39/XA16 (io), C6 GPIO46/XA6 (io), C7 GPIO43/XA3 (io), C8 GPIO40/XA0/~{XWE1} (io), C9 GPIO36/SCIRXDA/~{XZCS0} (io), C10 GPIO38/~{XWE0} (io), D1 GPIO0/EPWM1A (io), D2 GPIO1/EPWM1B/ECAP6/MFSRB (io), D3 GPIO2/EPWM2A, D6 GPIO47/XA7 (io), D10 GPIO28/SCIRXDA/~{XZCS6} (io), E1 GPIO3/EPWM2B/ECAP5/MCLKRB (io), E2 GPIO4/EPWM3A (io), E3 GPIO5/EPWM3B/MFSRA/ECAP1 (io), F1 GPIO6/EPWM4A/EPWMSYNCI/EPWMSYNCO (io), F2 GPIO7/EPWM4B/MCLKRA/ECAP2 (io), F3 GPIO8/EPWM5A/CANTXB/~{ADCSOCAO} (io), G1 GPIO9/EPWM5B/SCITXDB/ECAP3 (io), G2 GPIO10/EPWM6A/CANRXB/~{ADCSOCBO} (io), G3 GPIO11/EPWM6B/SCIRXDB/ECAP4 (io), H1 GPIO12/~{TZ1}/CANTXB/MDXB (io), H2 GPIO13/~{TZ2}/CANRXB/MDRB (io), H3 GPIO14/~{TZ3}/~{XHOLD}/SCITXDB/MCLKXB (io), J1 GPIO15/~{TZ4}/~{XHOLDA}/SCIRXDB/MFSXB (io), J2 GPIO16/SPISIMOA/CANTXB/~{TZ5} (io), J3 GPIO17/SPISOMIA/CANRXB/~{TZ6} (io), L13 GPIO49/ECAP6/XD30 (io), L14 GPIO48/ECAP5/XD31 (io), M8 GPIO19/~{SPISTEA}/SCIRXDB/CANTXA (io), M9 GPIO22/EQEP1S/MCLKXA/SCITXDB (io), M10 GPIO25/ECAP2/EQEP2B/MDRB (io), M11 GPIO32/SDAA/EPWMSYNCI/~{ADSOCAO} (io), N8 GPIO18/SPICLKA/SCITXDB/CANRXA (io), N9 GPIO21/EQEP1B/MDRA/CANRXB (io), N10 GPIO24/ECAP1/EQEP2A/MDXB (io), N11 GPIO27/ECAP4/EQEP2S/MFSXB (io), P9 GPIO20/EQEP1A/MDXA/CANTXB (io), P10 GPIO23/EQEP1I/MFSXA/SCIRXDB (io), P11 GPIO26/ECAP3/EQEP2I/MCLKXB (io), P12 GPIO33/SCLA/EPWMSYNCO/~{ADCSOCBO} (io)
part C pins: A3 GPIO86/XA14 (io), A4 GPIO83/XA11 (io), A5 GPIO80/XA8 (io), A11 GPIO76/XD3 (io), A12 GPIO73/XD6 (io), B3 GPIO87/XA15 (io), B4 GPIO84/XA12 (io), B5 GPIO81/XA9 (io), B10 GPIO79/XD0 (io), B11 GPIO77/XD2 (io), B12 GPIO74/XD5 (io), B13 GPIO72/XD7 (io), C4 GPIO85/XA13 (io), C5 GPIO82/XA10 (io), C11 GPIO78/XD1 (io), C12 GPIO75/XD4 (io), C13 GPIO71/XD8 (io), C14 GPIO70/XD9 (io), D12 GPIO69/XD10 (io), D13 GPIO68/XD11 (io), D14 GPIO67/XD12 (io), E12 GPIO66/XD13 (io), E13 GPIO65/XD14 (io), E14 GPIO64/XD15 (io), F12 GPIO63/SCITXDC/XD16 (io), F13 GPIO62/SCIRXDC/XD17 (io), F14 GPIO61/MFSRB/XD18 (io), G12 GPIO60/MCLKRB/XD19 (io), H11 GPIO59/MFSRA/XD20 (io), H12 GPIO58/MCLKRA/XD21 (io), H13 GPIO57/~{SPISTEA}/XD22 (io), J12 GPIO56/SPICLKA/XD23 (io), J13 GPIO55/SPISOMIA/XD24 (io), J14 GPIO54/SPISIMOA/XD25 (io), K12 GPIO53/EQEP1I/XD26 (io), K13 GPIO52/EQEP1S/XD27 (io), K14 GPIO51/EQEP1B/XD28 (io), L12 GPIO50/EQEP1A/XD29 (io)
part D pins: A1 VSS (power), A2 VSS (power), A13 VDDIO (power), A14 VSS (power), B1 VDDIO (power), B14 VSS (power), D4 VDD (power), D5 VDD (power), D7 VDDIO (power), D8 VDD (power), D9 VDD (power), D11 VDDIO (power), E4 VDDIO (power), E11 VDD (power), F4 VDD (power), F6 VSS (power), F7 VSS (power), F8 VSS (power), F9 VSS (power), F11 VDD (power), G4 VDDIO (power), G6 VSS (power), G7 VSS (power), G8 VSS (power), G9 VSS (power), G11 VDDIO (power), H4 VDD (power), H6 VSS (power), H7 VSS (power), H8 VSS (power), H9 VSS (power), J4 VDD (power), J6 VSS (power), J7 VSS (power), J8 VSS (power), J9 VSS (power), J11 VDD (power), K3 VDD1A18 (out), K4 VDDA2 (power), K11 VDD (power), L4 VSS1AGND (power), L5 VDDAIO (power), L6 VDD2A18 (power), L8 VDD (power), L9 VDD3VFL (power), L10 VDDIO (power), N1 VSSAIO (power), N14 VDDIO (power), P1 VSSA2 (power), P2 VSS2AGND (power), P13 VSS (power), P14 VSS (power)

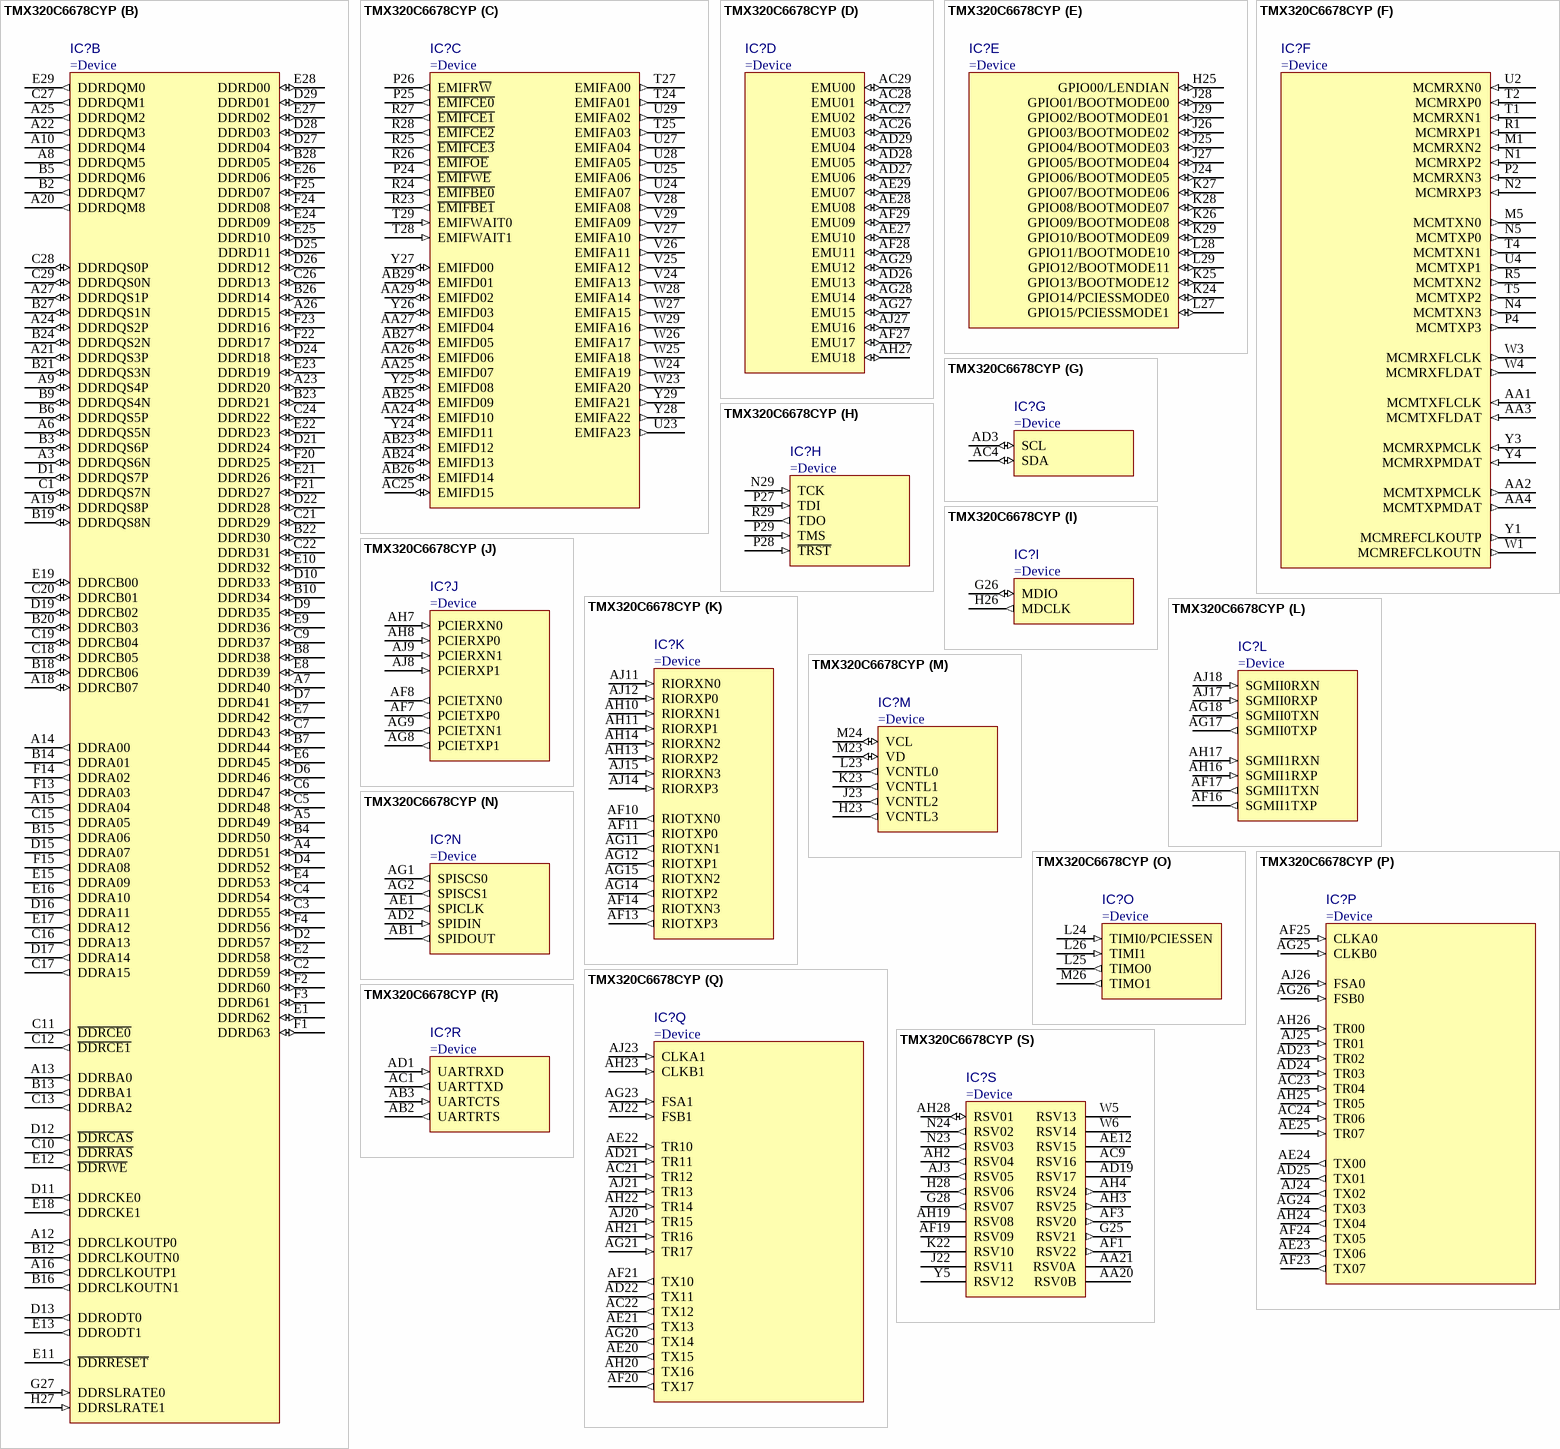
[diagram p128: symbol TMX320C6678CYP]

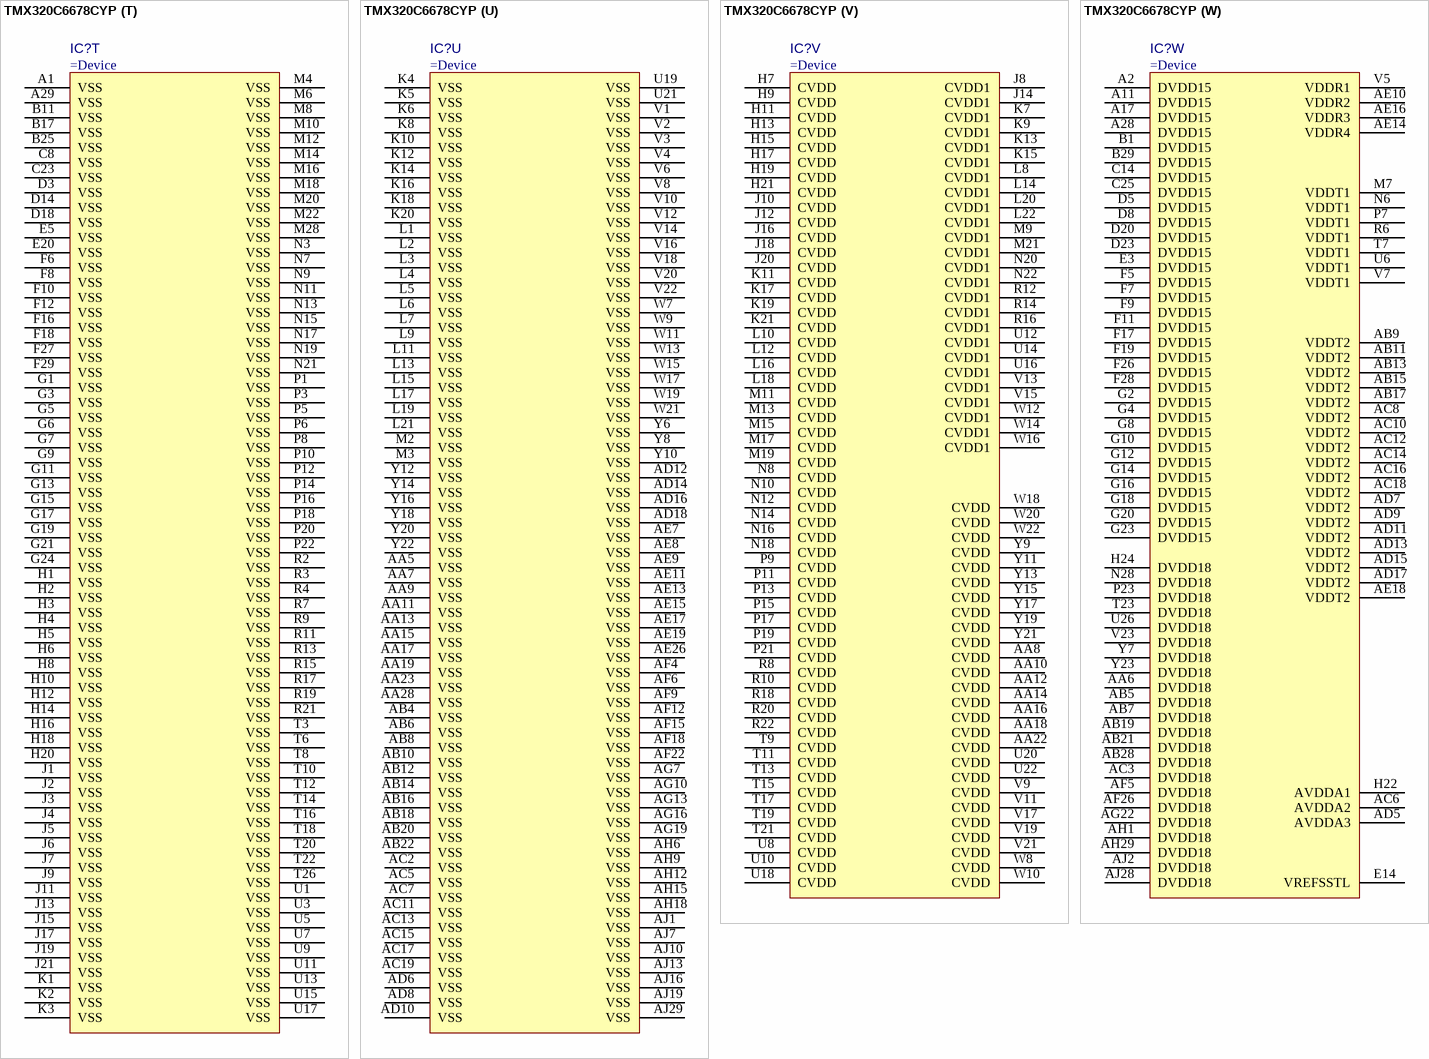
[diagram p129: symbol TMX320C6678CYP]

## TMX320C6678CYP
designator IC?
Multicore Fixed and Floating-Point Digital Signal Processor
part A pins: AC20 ~{POR} (in), AD4 CORESEL1 (in), AD20 HOUT (out), AE2 BOOTCOMPLETE (out), AE3 SYSCLKOUT (out), AE4 PACLKSEL (in), AE5 CORESEL3 (in), AE6 CORESEL2 (in), AF2 CORESEL0 (in), AG3 CORECLKP (in), AG4 CORECLKN (in), AG5 PCIECLKP (in), AG6 SRIOSGMIICLKP (in), AH5 PCIECLKN (in), AJ4 PASSCLKN (in), AJ5 PASSCLKP (in), AJ6 SRIOSGMIICLKN (in), G22 PTV15 (in), G29 DDRCLKP (in), H29 DDRCLKN (in), M25 ~{NMI} (in), M27 ~{LRESETNMIEN} (in), M29 ~{RESET} (in), N25 ~{RESETFULL} (in), N26 ~{LRESET} (in), N27 ~{RESETSTAT} (out), W2 MCMCLKP (in), Y2 MCMCLKN (in)
part B pins: A3 DDRDQS6N (io), A4 DDRD51 (io), A5 DDRD49 (io), A6 DDRDQS5N (io), A7 DDRD40 (io), A8 DDRDQM5 (out), A9 DDRDQS4P (io), A10 DDRDQM4 (out), A12 DDRCLKOUTP0 (out), A13 DDRBA0 (out), A14 DDRA00 (out), A15 DDRA04 (out), A16 DDRCLKOUTP1 (out), A18 DDRCB07 (io), A19 DDRDQS8P (io), A20 DDRDQM8 (out), A21 DDRDQS3P (io), A22 DDRDQM3 (out), A23 DDRD20 (io), A24 DDRDQS2P (io), A25 DDRDQM2 (out), A26 DDRD15 (io), A27 DDRDQS1P (io), B2 DDRDQM7 (out), B3 DDRDQS6P (io), B4 DDRD50 (io), B5 DDRDQM6 (out), B6 DDRDQS5P (io), B7 DDRD44 (io), B8 DDRD38 (io), B9 DDRDQS4N (io), B10 DDRD34 (io), B12 DDRCLKOUTN0 (out), B13 DDRBA1 (out), B14 DDRA01 (out), B15 DDRA06 (out), B16 DDRCLKOUTN1 (out), B18 DDRCB06 (io), B19 DDRDQS8N (io), B20 DDRCB03 (io), B21 DDRDQS3N (io), B22 DDRD30 (io), B23 DDRD21 (io), B24 DDRDQS2N (io), B26 DDRD14 (io), B27 DDRDQS1N (io), B28 DDRD05 (io), C1 DDRDQS7N (io), C2 DDRD59 (io), C3 DDRD55 (io), C4 DDRD54 (io), C5 DDRD48 (io), C6 DDRD47 (io), C7 DDRD43 (io), C9 DDRD37 (io), C10 ~{DDRRAS} (out), C11 ~{DDRCE0} (out), C12 ~{DDRCE1} (out), C13 DDRBA2 (out), C15 DDRA05 (out), C16 DDRA13 (out), C17 DDRA15 (out), C18 DDRCB05 (io), C19 DDRCB04 (io), C20 DDRCB01 (io), C21 DDRD29 (io), C22 DDRD31 (io), C24 DDRD22 (io), C26 DDRD13 (io), C27 DDRDQM1 (out), C28 DDRDQS0P (io), C29 DDRDQS0N (io), D1 DDRDQS7P (io), D2 DDRD57 (io), D4 DDRD52 (io), D6 DDRD46 (io), D7 DDRD41 (io), D9 DDRD35 (io), D10 DDRD33 (io), D11 DDRCKE0 (out), D12 ~{DDRCAS} (out), D13 DDRODT0 (out), D15 DDRA07 (out), D16 DDRA11 (out), D17 DDRA14 (out), D19 DDRCB02 (io), D21 DDRD24 (io), D22 DDRD28 (io), D24 DDRD18 (io), D25 DDRD11 (io), D26 DDRD12 (io), D27 DDRD04 (io), D28 DDRD03 (io), D29 DDRD01 (io), E1 DDRD62 (io), E2 DDRD58 (io), E4 DDRD53 (io), E6 DDRD45 (io), E7 DDRD42 (io), E8 DDRD39 (io), E9 DDRD36 (io), E10 DDRD32 (io), E11 ~{DDRRESET} (out), E12 ~{DDRWE} (out), E13 DDRODT1 (out), E15 DDRA09 (out), E16 DDRA10 (out), E17 DDRA12 (out), E18 DDRCKE1 (out), E19 DDRCB00 (io), E21 DDRD26 (io), E22 DDRD23 (io), E23 DDRD19 (io), E24 DDRD09 (io), E25 DDRD10 (io), E26 DDRD06 (io), E27 DDRD02 (io), E28 DDRD00 (io), E29 DDRDQM0 (out), F1 DDRD63 (io), F2 DDRD60 (io), F3 DDRD61 (io), F4 DDRD56 (io), F13 DDRA03 (out), F14 DDRA02 (out), F15 DDRA08 (out), F20 DDRD25 (io), F21 DDRD27 (io), F22 DDRD17 (io), F23 DDRD16 (io), F24 DDRD08 (io), F25 DDRD07 (io), G27 DDRSLRATE0 (in), H27 DDRSLRATE1 (in)
part C pins: AA24 EMIFD10 (io), AA25 EMIFD07 (io), AA26 EMIFD06 (io), AA27 EMIFD04 (io), AA29 EMIFD02 (io), AB23 EMIFD12 (io), AB24 EMIFD13 (io), AB25 EMIFD09 (io), AB26 EMIFD14 (io), AB27 EMIFD05 (io), AB29 EMIFD01 (io), AC25 EMIFD15 (io), P24 ~{EMIFWE} (out), P25 ~{EMIFCE0} (out), P26 EMIFR~{W} (out), R23 ~{EMIFBE1} (out), R24 ~{EMIFBE0} (out), R25 ~{EMIFCE3} (out), R26 ~{EMIFOE} (out), R27 ~{EMIFCE1} (out), R28 ~{EMIFCE2} (out), T24 EMIFA01 (out), T25 EMIFA03 (out), T27 EMIFA00 (out), T28 EMIFWAIT1 (in), T29 EMIFWAIT0 (in), U23 EMIFA23 (out), U24 EMIFA07 (out), U25 EMIFA06 (out), U27 EMIFA04 (out), U28 EMIFA05 (out), U29 EMIFA02 (out), V24 EMIFA13 (out), V25 EMIFA12 (out), V26 EMIFA11 (out), V27 EMIFA10 (out), V28 EMIFA08 (out), V29 EMIFA09 (out), W23 EMIFA20 (out), W24 EMIFA19 (out), W25 EMIFA18 (out), W26 EMIFA17 (out), W27 EMIFA15 (out), W28 EMIFA14 (out), W29 EMIFA16 (out), Y24 EMIFD11 (io), Y25 EMIFD08 (io), Y26 EMIFD03 (io), Y27 EMIFD00 (io), Y28 EMIFA22 (out), Y29 EMIFA21 (out)
part D pins: AC26 EMU03 (io), AC27 EMU02 (io), AC28 EMU01 (io), AC29 EMU00 (io), AD26 EMU13 (io), AD27 EMU06 (io), AD28 EMU05 (io), AD29 EMU04 (io), AE27 EMU10 (io), AE28 EMU08 (io), AE29 EMU07 (io), AF27 EMU17 (io), AF28 EMU11 (io), AF29 EMU09 (io), AG27 EMU15 (io), AG28 EMU14 (io), AG29 EMU12 (io), AH27 EMU18 (io), AJ27 EMU16 (io)
part E pins: H25 GPIO00/LENDIAN (io), J24 GPIO06/BOOTMODE05 (io), J25 GPIO04/BOOTMODE03 (io), J26 GPIO03/BOOTMODE02 (io), J27 GPIO05/BOOTMODE04 (io), J28 GPIO01/BOOTMODE00 (io), J29 GPIO02/BOOTMODE01 (io), K24 GPIO14/PCIESSMODE0 (io), K25 GPIO13/BOOTMODE12 (io), K26 GPIO09/BOOTMODE08 (io), K27 GPIO07/BOOTMODE06 (io), K28 GPIO08/BOOTMODE07 (io), K29 GPIO10/BOOTMODE09 (io), L27 GPIO15/PCIESSMODE1 (io), L28 GPIO11/BOOTMODE10 (io), L29 GPIO12/BOOTMODE11 (io)
part F pins: AA1 MCMTXFLCLK (in), AA2 MCMTXPMCLK (out), AA3 MCMTXFLDAT (in), AA4 MCMTXPMDAT (out), M1 MCMRXN2 (in), M5 MCMTXN0 (out), N1 MCMRXP2 (in), N2 MCMRXP3 (in), N4 MCMTXN3 (out), N5 MCMTXP0 (out), P2 MCMRXN3 (in), P4 MCMTXP3 (out), R1 MCMRXP1 (in), R5 MCMTXN2 (out), T1 MCMRXN1 (in), T2 MCMRXP0 (in), T4 MCMTXN1 (out), T5 MCMTXP2 (out), U2 MCMRXN0 (in), U4 MCMTXP1 (out), W1 MCMREFCLKOUTN (out), W3 MCMRXFLCLK (out), W4 MCMRXFLDAT (out), Y1 MCMREFCLKOUTP (out), Y3 MCMRXPMCLK (in), Y4 MCMRXPMDAT (in)
part G pins: AC4 SDA (io), AD3 SCL (io)
part H pins: N29 TCK (in), P27 TDI (in), P28 ~{TRST} (in), P29 TMS (in), R29 TDO (out)
part I pins: G26 MDIO (io), H26 MDCLK (out)
part J pins: AF7 PCIETXP0 (out), AF8 PCIETXN0 (out), AG8 PCIETXP1 (out), AG9 PCIETXN1 (out), AH7 PCIERXN0 (in), AH8 PCIERXP0 (in), AJ8 PCIERXP1 (in), AJ9 PCIERXN1 (in)
part K pins: AF10 RIOTXN0 (out), AF11 RIOTXP0 (out), AF13 RIOTXP3 (out), AF14 RIOTXN3 (out), AG11 RIOTXN1 (out), AG12 RIOTXP1 (out), AG14 RIOTXP2 (out), AG15 RIOTXN2 (out), AH10 RIORXN1 (in), AH11 RIORXP1 (in), AH13 RIORXP2 (in), AH14 RIORXN2 (in), AJ11 RIORXN0 (in), AJ12 RIORXP0 (in), AJ14 RIORXP3 (in), AJ15 RIORXN3 (in)
part L pins: AF16 SGMII1TXP (out), AF17 SGMII1TXN (out), AG17 SGMII0TXP (out), AG18 SGMII0TXN (out), AH16 SGMII1RXP (in), AH17 SGMII1RXN (in), AJ17 SGMII0RXP (in), AJ18 SGMII0RXN (in)
part M pins: H23 VCNTL3 (out), J23 VCNTL2 (out), K23 VCNTL1 (out), L23 VCNTL0 (out), M23 VD (io), M24 VCL (io)
part N pins: AB1 SPIDOUT (out), AD2 SPIDIN (in), AE1 SPICLK (out), AG1 SPISCS0 (out), AG2 SPISCS1 (out)
part O pins: L24 TIMI0/PCIESSEN (in), L25 TIMO0 (out), L26 TIMI1 (in), M26 TIMO1 (out)
part P pins: AC23 TR04 (in), AC24 TR06 (in), AD23 TR02 (in), AD24 TR03 (in), AD25 TX01 (out), AE23 TX06 (out), AE24 TX00 (out), AE25 TR07 (in), AF23 TX07 (out), AF24 TX05 (out), AF25 CLKA0 (in), AG24 TX03 (out), AG25 CLKB0 (in), AG26 FSB0 (in), AH24 TX04 (out), AH25 TR05 (in), AH26 TR00 (in), AJ24 TX02 (out), AJ25 TR01 (in), AJ26 FSA0 (in)
part Q pins: AC21 TR12 (in), AC22 TX12 (out), AD21 TR11 (in), AD22 TX11 (out), AE20 TX15 (out), AE21 TX13 (out), AE22 TR10 (in), AF20 TX17 (out), AF21 TX10 (out), AG20 TX14 (out), AG21 TR17 (in), AG23 FSA1 (in), AH20 TX16 (out), AH21 TR16 (in), AH22 TR14 (in), AH23 CLKB1 (in), AJ20 TR15 (in), AJ21 TR13 (in), AJ22 FSB1 (in), AJ23 CLKA1 (in)
part R pins: AB2 UARTRTS (out), AB3 UARTCTS (in), AC1 UARTTXD (out), AD1 UARTRXD (in)
part S pins: AA20 RSV0B, AA21 RSV0A, AC9 RSV16, AD19 RSV17, AE12 RSV15, AF1 RSV22 (out), AF3 RSV20 (out), AF19 RSV09, AH2 RSV04 (out), AH3 RSV25 (out), AH4 RSV24 (out), AH19 RSV08, AH28 RSV01 (io), AJ3 RSV05 (out), G25 RSV21 (out), G28 RSV07 (out), H28 RSV06 (out), J22 RSV11, K22 RSV10, N23 RSV03 (out), N24 RSV02 (out), W5 RSV13, W6 RSV14, Y5 RSV12
part T pins: A1 VSS (power), A29 VSS (power), B11 VSS (power), B17 VSS (power), B25 VSS (power), C8 VSS (power), C23 VSS (power), D3 VSS (power), D14 VSS (power), D18 VSS (power), E5 VSS (power), E20 VSS (power), F6 VSS (power), F8 VSS (power), F10 VSS (power), F12 VSS (power), F16 VSS (power), F18 VSS (power), F27 VSS (power), F29 VSS (power), G1 VSS (power), G3 VSS (power), G5 VSS (power), G6 VSS (power), G7 VSS (power), G9 VSS (power), G11 VSS (power), G13 VSS (power), G15 VSS (power), G17 VSS (power), G19 VSS (power), G21 VSS (power), G24 VSS (power), H1 VSS (power), H2 VSS (power), H3 VSS (power), H4 VSS (power), H5 VSS (power), H6 VSS (power), H8 VSS (power), H10 VSS (power), H12 VSS (power), H14 VSS (power), H16 VSS (power), H18 VSS (power), H20 VSS (power), J1 VSS (power), J2 VSS (power), J3 VSS (power), J4 VSS (power), J5 VSS (power), J6 VSS (power), J7 VSS (power), J9 VSS (power), J11 VSS (power), J13 VSS (power), J15 VSS (power), J17 VSS (power), J19 VSS (power), J21 VSS (power), K1 VSS (power), K2 VSS (power), K3 VSS (power), M4 VSS (power), M6 VSS (power), M8 VSS (power), M10 VSS (power), M12 VSS (power), M14 VSS (power), M16 VSS (power), M18 VSS (power), M20 VSS (power), M22 VSS (power), M28 VSS (power), N3 VSS (power), N7 VSS (power), N9 VSS (power), N11 VSS (power), N13 VSS (power), N15 VSS (power), N17 VSS (power), N19 VSS (power), N21 VSS (power), P1 VSS (power), P3 VSS (power), P5 VSS (power), P6 VSS (power), P8 VSS (power), P10 VSS (power), P12 VSS (power), P14 VSS (power), P16 VSS (power), P18 VSS (power), P20 VSS (power), P22 VSS (power), R2 VSS (power), R3 VSS (power), R4 VSS (power), R7 VSS (power), R9 VSS (power), R11 VSS (power), R13 VSS (power), R15 VSS (power), R17 VSS (power), R19 VSS (power), R21 VSS (power), T3 VSS (power), T6 VSS (power), T8 VSS (power), T10 VSS (power), T12 VSS (power), T14 VSS (power), T16 VSS (power), T18 VSS (power), T20 VSS (power), T22 VSS (power), T26 VSS (power), U1 VSS (power), U3 VSS (power), U5 VSS (power), U7 VSS (power), U9 VSS (power), U11 VSS (power), U13 VSS (power), U15 VSS (power), U17 VSS (power)
part U pins: AA5 VSS (power), AA7 VSS (power), AA9 VSS (power), AA11 VSS (power), AA13 VSS (power), AA15 VSS (power), AA17 VSS (power), AA19 VSS (power), AA23 VSS (power), AA28 VSS (power), AB4 VSS (power), AB6 VSS (power), AB8 VSS (power), AB10 VSS (power), AB12 VSS (power), AB14 VSS (power), AB16 VSS (power), AB18 VSS (power), AB20 VSS (power), AB22 VSS (power), AC2 VSS (power), AC5 VSS (power), AC7 VSS (power), AC11 VSS (power), AC13 VSS (power), AC15 VSS (power), AC17 VSS (power), AC19 VSS (power), AD6 VSS (power), AD8 VSS (power), AD10 VSS (power), AD12 VSS (power), AD14 VSS (power), AD16 VSS (power), AD18 VSS (power), AE7 VSS (power), AE8 VSS (power), AE9 VSS (power), AE11 VSS (power), AE13 VSS (power), AE15 VSS (power), AE17 VSS (power), AE19 VSS (power), AE26 VSS (power), AF4 VSS (power), AF6 VSS (power), AF9 VSS (power), AF12 VSS (power), AF15 VSS (power), AF18 VSS (power), AF22 VSS (power), AG7 VSS (power), AG10 VSS (power), AG13 VSS (power), AG16 VSS (power), AG19 VSS (power), AH6 VSS (power), AH9 VSS (power), AH12 VSS (power), AH15 VSS (power), AH18 VSS (power), AJ1 VSS (power), AJ7 VSS (power), AJ10 VSS (power), AJ13 VSS (power), AJ16 VSS (power), AJ19 VSS (power), AJ29 VSS (power), K4 VSS (power), K5 VSS (power), K6 VSS (power), K8 VSS (power), K10 VSS (power), K12 VSS (power), K14 VSS (power), K16 VSS (power), K18 VSS (power), K20 VSS (power), L1 VSS (power), L2 VSS (power), L3 VSS (power), L4 VSS (power), L5 VSS (power), L6 VSS (power), L7 VSS (power), L9 VSS (power), L11 VSS (power), L13 VSS (power), L15 VSS (power), L17 VSS (power), L19 VSS (power), L21 VSS (power), M2 VSS (power), M3 VSS (power), U19 VSS (power), U21 VSS (power), V1 VSS (power), V2 VSS (power), V3 VSS (power), V4 VSS (power), V6 VSS (power), V8 VSS (power), V10 VSS (power), V12 VSS (power), V14 VSS (power), V16 VSS (power), V18 VSS (power), V20 VSS (power), V22 VSS (power), W7 VSS (power), W9 VSS (power), W11 VSS (power), W13 VSS (power), W15 VSS (power), W17 VSS (power), W19 VSS (power), W21 VSS (power), Y6 VSS (power), Y8 VSS (power), Y10 VSS (power), Y12 VSS (power), Y14 VSS (power), Y16 VSS (power), Y18 VSS (power), Y20 VSS (power), Y22 VSS (power)
part V pins: AA8 CVDD (power), AA10 CVDD (power), AA12 CVDD (power), AA14 CVDD (power), AA16 CVDD (power), AA18 CVDD (power), AA22 CVDD (power), H7 CVDD (power), H9 CVDD (power), H11 CVDD (power), H13 CVDD (power), H15 CVDD (power), H17 CVDD (power), H19 CVDD (power), H21 CVDD (power), J8 CVDD1 (power), J10 CVDD (power), J12 CVDD (power), J14 CVDD1 (power), J16 CVDD (power), J18 CVDD (power), J20 CVDD (power), K7 CVDD1 (power), K9 CVDD1 (power), K11 CVDD (power), K13 CVDD1 (power), K15 CVDD1 (power), K17 CVDD (power), K19 CVDD (power), K21 CVDD (power), L8 CVDD1 (power), L10 CVDD (power), L12 CVDD (power), L14 CVDD1 (power), L16 CVDD (power), L18 CVDD (power), L20 CVDD1 (power), L22 CVDD1 (power), M9 CVDD1 (power), M11 CVDD (power), M13 CVDD (power), M15 CVDD (power), M17 CVDD (power), M19 CVDD (power), M21 CVDD1 (power), N8 CVDD (power), N10 CVDD (power), N12 CVDD (power), N14 CVDD (power), N16 CVDD (power), N18 CVDD (power), N20 CVDD1 (power), N22 CVDD1 (power), P9 CVDD (power), P11 CVDD (power), P13 CVDD (power), P15 CVDD (power), P17 CVDD (power), P19 CVDD (power), P21 CVDD (power), R8 CVDD (power), R10 CVDD (power), R12 CVDD1 (power), R14 CVDD1 (power), R16 CVDD1 (power), R18 CVDD (power), R20 CVDD (power), R22 CVDD (power), T9 CVDD (power), T11 CVDD (power), T13 CVDD (power), T15 CVDD (power), T17 CVDD (power), T19 CVDD (power), T21 CVDD (power), U8 CVDD (power), U10 CVDD (power), U12 CVDD1 (power), U14 CVDD1 (power), U16 CVDD1 (power), U18 CVDD (power), U20 CVDD (power), U22 CVDD (power), V9 CVDD (power), V11 CVDD (power), V13 CVDD1 (power), V15 CVDD1 (power), V17 CVDD (power), V19 CVDD (power), V21 CVDD (power), W8 CVDD (power), W10 CVDD (power), W12 CVDD1 (power), W14 CVDD1 (power), W16 CVDD1 (power), W18 CVDD (power), W20 CVDD (power), W22 CVDD (power), Y9 CVDD (power), Y11 CVDD (power), Y13 CVDD (power), Y15 CVDD (power), Y17 CVDD (power), Y19 CVDD (power), Y21 CVDD (power)
part W pins: A2 DVDD15 (power), A11 DVDD15 (power), A17 DVDD15 (power), A28 DVDD15 (power), AA6 DVDD18 (power), AB5 DVDD18 (power), AB7 DVDD18 (power), AB9 VDDT2 (power), AB11 VDDT2 (power), AB13 VDDT2 (power), AB15 VDDT2 (power), AB17 VDDT2 (power), AB19 DVDD18 (power), AB21 DVDD18 (power), AB28 DVDD18 (power), AC3 DVDD18 (power), AC6 AVDDA2 (power), AC8 VDDT2 (power), AC10 VDDT2 (power), AC12 VDDT2 (power), AC14 VDDT2 (power), AC16 VDDT2 (power), AC18 VDDT2 (power), AD5 AVDDA3 (power), AD7 VDDT2 (power), AD9 VDDT2 (power), AD11 VDDT2 (power), AD13 VDDT2 (power), AD15 VDDT2 (power), AD17 VDDT2 (power), AE10 VDDR2 (power), AE14 VDDR4 (power), AE16 VDDR3 (power), AE18 VDDT2 (power), AF5 DVDD18 (power), AF26 DVDD18 (power), AG22 DVDD18 (power), AH1 DVDD18 (power), AH29 DVDD18 (power), AJ2 DVDD18 (power), AJ28 DVDD18 (power), B1 DVDD15 (power), B29 DVDD15 (power), C14 DVDD15 (power), C25 DVDD15 (power), D5 DVDD15 (power), D8 DVDD15 (power), D20 DVDD15 (power), D23 DVDD15 (power), E3 DVDD15 (power), E14 VREFSSTL (power), F5 DVDD15 (power), F7 DVDD15 (power), F9 DVDD15 (power), F11 DVDD15 (power), F17 DVDD15 (power), F19 DVDD15 (power), F26 DVDD15 (power), F28 DVDD15 (power), G2 DVDD15 (power), G4 DVDD15 (power), G8 DVDD15 (power), G10 DVDD15 (power), G12 DVDD15 (power), G14 DVDD15 (power), G16 DVDD15 (power), G18 DVDD15 (power), G20 DVDD15 (power), G23 DVDD15 (power), H22 AVDDA1 (power), H24 DVDD18 (power), M7 VDDT1 (power), N6 VDDT1 (power), N28 DVDD18 (power), P7 VDDT1 (power), P23 DVDD18 (power), R6 VDDT1 (power), T7 VDDT1 (power), T23 DVDD18 (power), U6 VDDT1 (power), U26 DVDD18 (power), V5 VDDR1 (power), V7 VDDT1 (power), V23 DVDD18 (power), Y7 DVDD18 (power), Y23 DVDD18 (power)

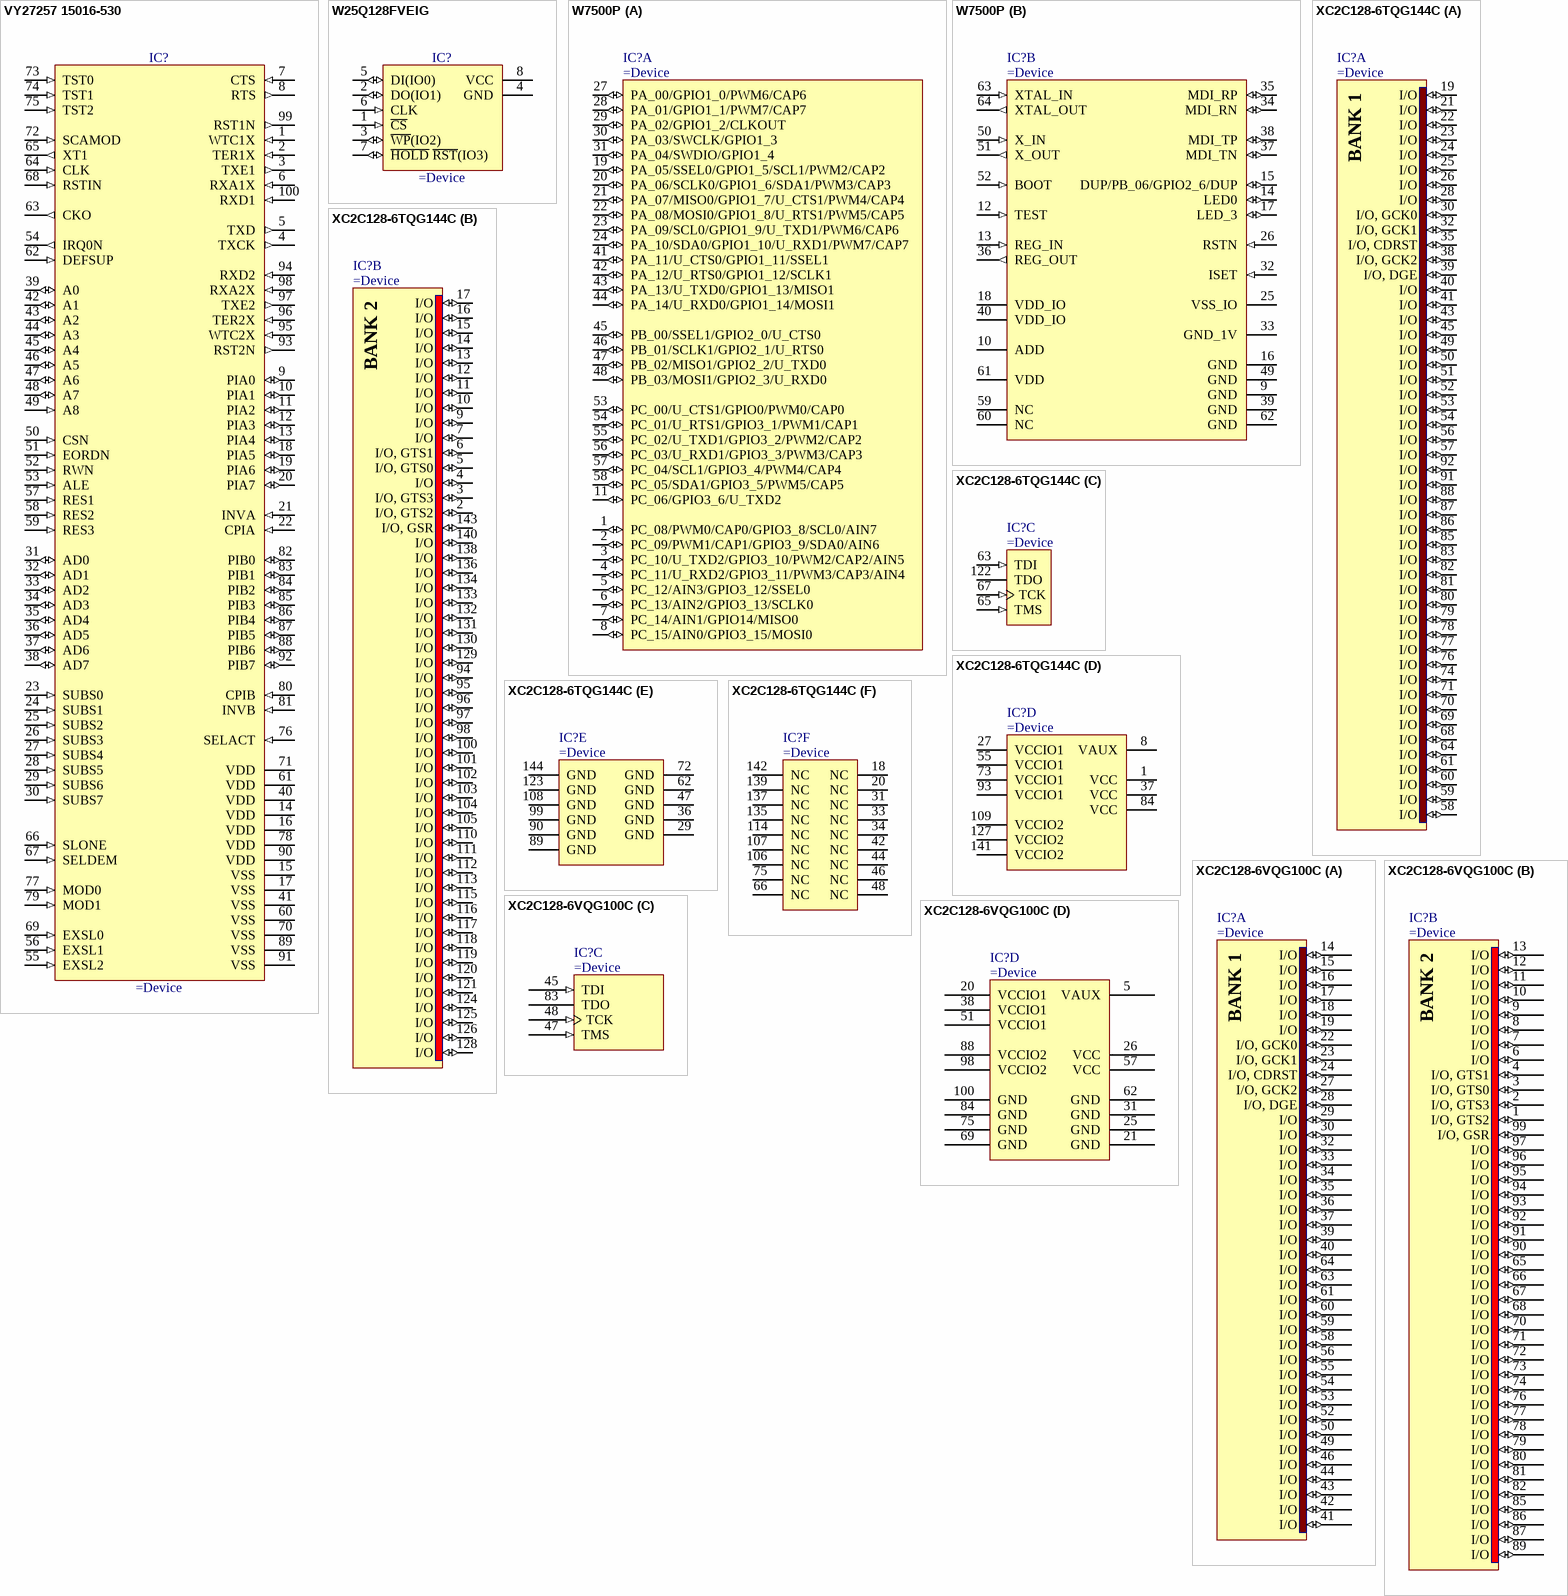
[diagram p130: symbols VY27257 15016-530 to XC2C128-6VQG100C]

## VY27257 15016-530
designator IC?
MICROFIP
pins: 1 WTC1X (in), 2 TER1X (in), 3 TXE1 (out), 4 TXCK (out), 5 TXD (out), 6 RXA1X (in), 7 CTS (in), 8 RTS (out), 9 PIA0 (io), 10 PIA1 (io), 11 PIA2 (io), 12 PIA3 (io), 13 PIA4 (io), 14 VDD (power), 15 VSS (power), 16 VDD (power), 17 VSS (power), 18 PIA5 (io), 19 PIA6 (io), 20 PIA7 (io), 21 INVA (in), 22 CPIA (in), 23 SUBS0 (in), 24 SUBS1 (in), 25 SUBS2 (in), 26 SUBS3 (in), 27 SUBS4 (in), 28 SUBS5 (in), 29 SUBS6 (in), 30 SUBS7 (in), 31 AD0 (io), 32 AD1 (io), 33 AD2 (io), 34 AD3 (io), 35 AD4 (io), 36 AD5 (io), 37 AD6 (io), 38 AD7 (io), 39 A0 (io), 40 VDD (power), 41 VSS (power), 42 A1 (io), 43 A2 (io), 44 A3 (io), 45 A4 (io), 46 A5 (io), 47 A6 (io), 48 A7 (io), 49 A8 (in), 50 CSN (in), 51 EORDN (in), 52 RWN (in), 53 ALE (in), 54 IRQ0N (out), 55 EXSL2 (in), 56 EXSL1 (in), 57 RES1 (in), 58 RES2 (in), 59 RES3 (in), 60 VSS (power), 61 VDD (power), 62 DEFSUP (in), 63 CKO (out), 64 CLK (in), 65 XT1 (out), 66 SLONE (in), 67 SELDEM (in), 68 RSTIN (in), 69 EXSL0 (in), 70 VSS (power), 71 VDD (power), 72 SCAMOD (in), 73 TST0 (in), 74 TST1 (in), 75 TST2 (in), 76 SELACT (in), 77 MOD0 (in), 78 VDD (power), 79 MOD1 (in), 80 CPIB (in), 81 INVB (in), 82 PIB0 (io), 83 PIB1 (io), 84 PIB2 (io), 85 PIB3 (io), 86 PIB4 (io), 87 PIB5 (io), 88 PIB6 (io), 89 VSS (power), 90 VDD (power), 91 VSS (power), 92 PIB7 (io), 93 RST2N (out), 94 RXD2 (in), 95 WTC2X (in), 96 TER2X (in), 97 TXE2 (out), 98 RXA2X (in), 99 RST1N (out), 100 RXD1 (in)

## W25Q128FVEIG
designator IC?
128M-bit Serial Flash Memory with uniform 4KB sectors and Dual/Quad SPI and QPI
pins: 1 ~{CS} (in), 2 DO(IO1) (io), 3 ~{WP}(IO2) (io), 4 GND (power), 5 DI(IO0) (io), 6 CLK (in), 7 ~{HOLD} ~{RST}(IO3) (io), 8 VCC (power)

## W7500P
designator IC?
WIZnet ARM Cortex-M0 Core 128KBflsh TCP/IP PHY
part A pins: 1 PC_08/PWM0/CAP0/GPIO3_8/SCL0/AIN7 (io), 2 PC_09/PWM1/CAP1/GPIO3_9/SDA0/AIN6 (io), 3 PC_10/U_TXD2/GPIO3_10/PWM2/CAP2/AIN5 (io), 4 PC_11/U_RXD2/GPIO3_11/PWM3/CAP3/AIN4 (io), 5 PC_12/AIN3/GPIO3_12/SSEL0 (io), 6 PC_13/AIN2/GPIO3_13/SCLK0 (io), 7 PC_14/AIN1/GPIO14/MISO0 (io), 8 PC_15/AIN0/GPIO3_15/MOSI0 (io), 11 PC_06/GPIO3_6/U_TXD2 (io), 19 PA_05/SSEL0/GPIO1_5/SCL1/PWM2/CAP2 (io), 20 PA_06/SCLK0/GPIO1_6/SDA1/PWM3/CAP3 (io), 21 PA_07/MISO0/GPIO1_7/U_CTS1/PWM4/CAP4 (io), 22 PA_08/MOSI0/GPIO1_8/U_RTS1/PWM5/CAP5 (io), 23 PA_09/SCL0/GPIO1_9/U_TXD1/PWM6/CAP6 (io), 24 PA_10/SDA0/GPIO1_10/U_RXD1/PWM7/CAP7 (io), 27 PA_00/GPIO1_0/PWM6/CAP6 (io), 28 PA_01/GPIO1_1/PWM7/CAP7 (io), 29 PA_02/GPIO1_2/CLKOUT (io), 30 PA_03/SWCLK/GPIO1_3 (io), 31 PA_04/SWDIO/GPIO1_4 (io), 41 PA_11/U_CTS0/GPIO1_11/SSEL1 (io), 42 PA_12/U_RTS0/GPIO1_12/SCLK1 (io), 43 PA_13/U_TXD0/GPIO1_13/MISO1 (io), 44 PA_14/U_RXD0/GPIO1_14/MOSI1 (io), 45 PB_00/SSEL1/GPIO2_0/U_CTS0 (io), 46 PB_01/SCLK1/GPIO2_1/U_RTS0 (io), 47 PB_02/MISO1/GPIO2_2/U_TXD0 (io), 48 PB_03/MOSI1/GPIO2_3/U_RXD0 (io), 53 PC_00/U_CTS1/GPIO0/PWM0/CAP0 (io), 54 PC_01/U_RTS1/GPIO3_1/PWM1/CAP1 (io), 55 PC_02/U_TXD1/GPIO3_2/PWM2/CAP2 (io), 56 PC_03/U_RXD1/GPIO3_3/PWM3/CAP3 (io), 57 PC_04/SCL1/GPIO3_4/PWM4/CAP4 (io), 58 PC_05/SDA1/GPIO3_5/PWM5/CAP5 (io)
part B pins: 9 GND (power), 10 ADD (power), 12 TEST (in), 13 REG_IN (in), 14 LED0 (io), 15 DUP/PB_06/GPIO2_6/DUP (io), 16 GND (power), 17 LED_3 (io), 18 VDD_IO (power), 25 VSS_IO (power), 26 RSTN (in), 32 ISET (in), 33 GND_1V (power), 34 MDI_RN (io), 35 MDI_RP (io), 36 REG_OUT (out), 37 MDI_TN (io), 38 MDI_TP (io), 39 GND (power), 40 VDD_IO (power), 49 GND (power), 50 X_IN (in), 51 X_OUT (out), 52 BOOT (in), 59 NC (power), 60 NC, 61 VDD (power), 62 GND (power), 63 XTAL_IN (in), 64 XTAL_OUT (out)

## XC2C128-6TQG144C
designator IC?
CoolRunner-II 1.8V, 128 Macrocell CPLD, 100 User I/Os, 144-Pin TQFP, Commercial Grade, Pb-Free
part A pins: 19 I/O (io), 21 I/O (io), 22 I/O (io), 23 I/O (io), 24 I/O (io), 25 I/O (io), 26 I/O (io), 28 I/O (io), 30 I/O, GCK0 (io), 32 I/O, GCK1 (io), 35 I/O, CDRST (io), 38 I/O, GCK2 (io), 39 I/O, DGE (io), 40 I/O (io), 41 I/O (io), 43 I/O (io), 45 I/O (io), 49 I/O (io), 50 I/O (io), 51 I/O (io), 52 I/O (io), 53 I/O (io), 54 I/O (io), 56 I/O (io), 57 I/O (io), 58 I/O (io), 59 I/O (io), 60 I/O (io), 61 I/O (io), 64 I/O (io), 68 I/O (io), 69 I/O (io), 70 I/O (io), 71 I/O (io), 74 I/O (io), 76 I/O (io), 77 I/O (io), 78 I/O (io), 79 I/O (io), 80 I/O (io), 81 I/O (io), 82 I/O (io), 83 I/O (io), 85 I/O (io), 86 I/O (io), 87 I/O (io), 88 I/O (io), 91 I/O (io), 92 I/O (io)
part B pins: 2 I/O, GTS2 (io), 3 I/O, GTS3 (io), 4 I/O (io), 5 I/O, GTS0 (io), 6 I/O, GTS1 (io), 7 I/O (io), 9 I/O (io), 10 I/O (io), 11 I/O (io), 12 I/O (io), 13 I/O (io), 14 I/O (io), 15 I/O (io), 16 I/O (io), 17 I/O (io), 94 I/O (io), 95 I/O (io), 96 I/O (io), 97 I/O (io), 98 I/O (io), 100 I/O (io), 101 I/O (io), 102 I/O (io), 103 I/O (io), 104 I/O (io), 105 I/O (io), 110 I/O (io), 111 I/O (io), 112 I/O (io), 113 I/O (io), 115 I/O (io), 116 I/O (io), 117 I/O (io), 118 I/O (io), 119 I/O (io), 120 I/O (io), 121 I/O (io), 124 I/O (io), 125 I/O (io), 126 I/O (io), 128 I/O (io), 129 I/O (io), 130 I/O (io), 131 I/O (io), 132 I/O (io), 133 I/O (io), 134 I/O (io), 136 I/O (io), 138 I/O (io), 140 I/O (io), 143 I/O, GSR (io)
part C pins: 63 TDI (in), 65 TMS (in), 67 TCK (in), 122 TDO
part D pins: 1 VCC (power), 8 VAUX (power), 27 VCCIO1 (power), 37 VCC (power), 55 VCCIO1 (power), 73 VCCIO1 (power), 84 VCC (power), 93 VCCIO1 (power), 109 VCCIO2 (power), 127 VCCIO2 (power), 141 VCCIO2 (power)
part E pins: 29 GND (power), 36 GND (power), 47 GND (power), 62 GND (power), 72 GND (power), 89 GND (power), 90 GND (power), 99 GND (power), 108 GND (power), 123 GND (power), 144 GND (power)
part F pins: 18 NC, 20 NC, 31 NC, 33 NC, 34 NC, 42 NC, 44 NC, 46 NC, 48 NC, 66 NC, 75 NC, 106 NC, 107 NC, 114 NC, 135 NC, 137 NC, 139 NC, 142 NC
part A text: BANK 1
part B text: BANK 2